# Altium integrated library Xilinx Automotive IQ.IntLib: 78 symbols (part 6 of 7)
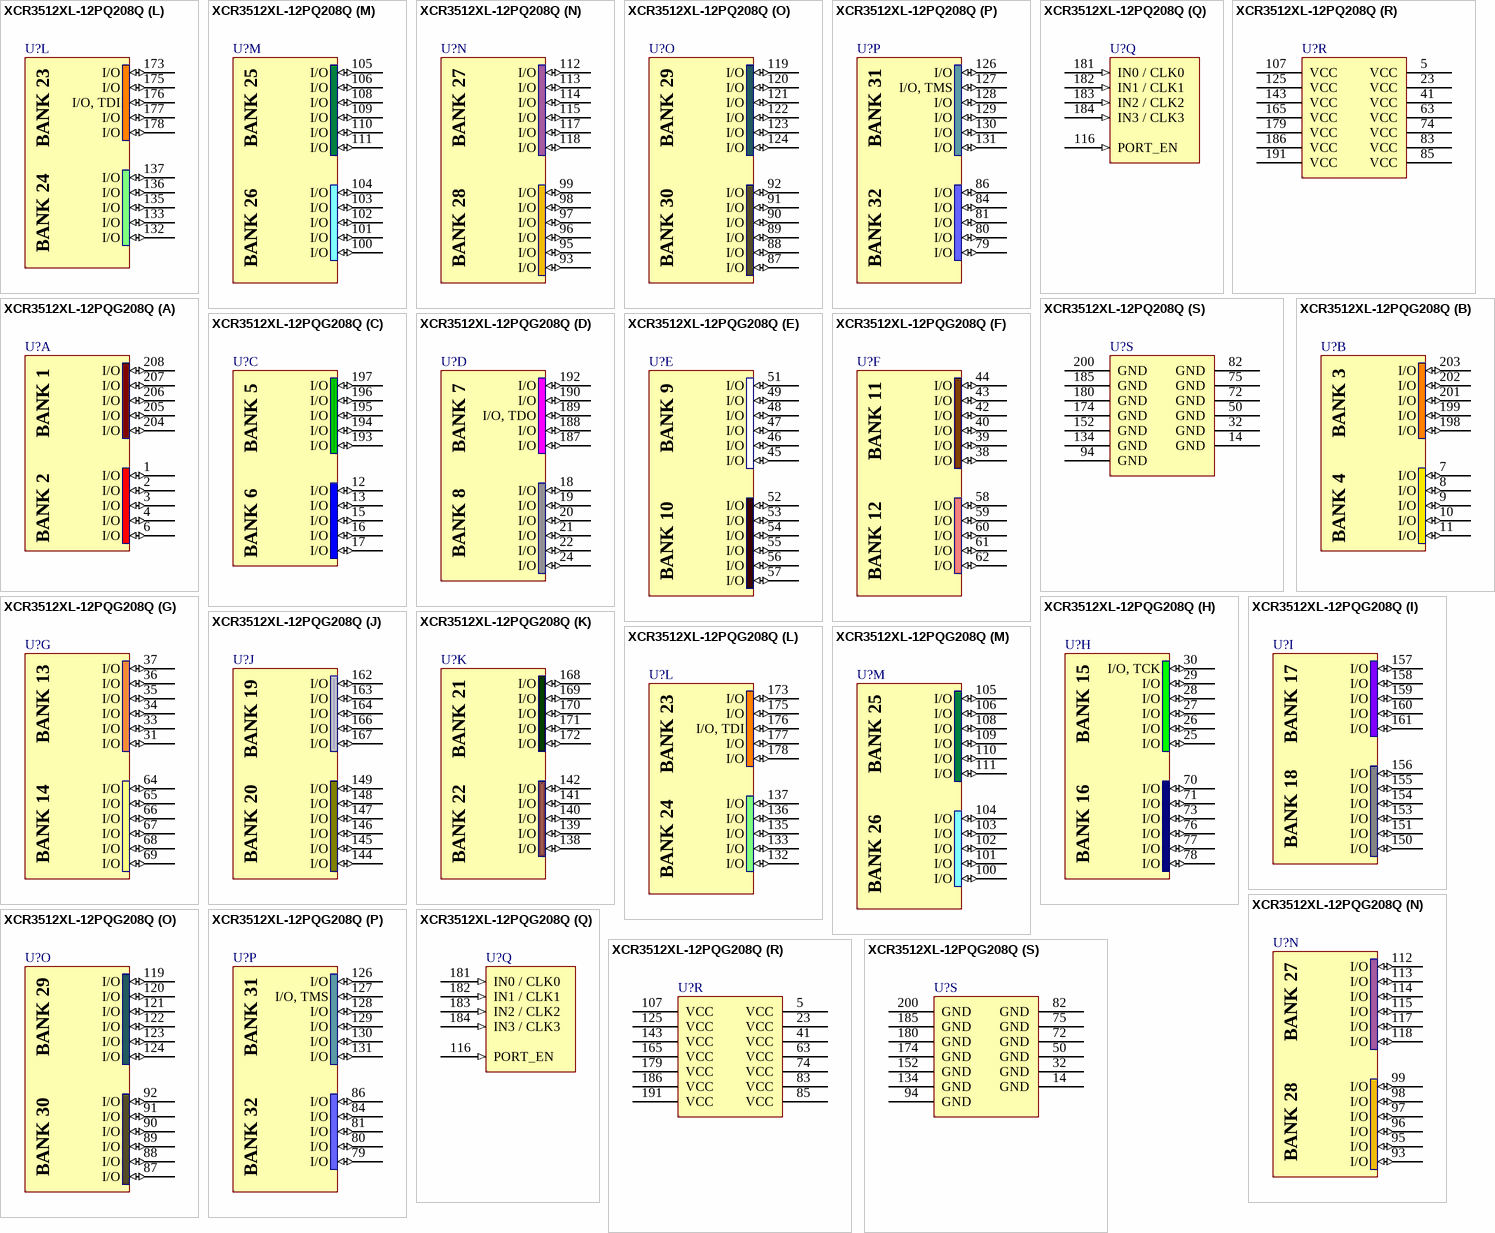
[diagram p42: symbols XCR3512XL-12PQ208Q to XCR3512XL-12PQG208Q]

## XCR3512XL-12PQG208Q
designator U?
Automotive IQ CoolRunner XPLA3 3.3V, 512 Macrocell CPLD, 180 User I/Os, 208-Pin PQFP, Q Grade, Pb-Free; DatasheetVersion: ver1.3, Oct-2004; PackageVersion: ver1.2, Jun-2004; PackageReference: PQG208; PackageDescription: 208-Pin Plastic Quad Flat Pack (PQG208) - Pb-Free; Code_JEDEC: MS-029-FA-1; ComponentLink1Description: Manufacturer URL; ComponentLink1URL: http://www.xilinx.com/; ComponentLink2Description: CoolRunner XPLA3 Automotive IQ Datasheet; ComponentLink2URL: http://www.xilinx.com/support/documentation/data_sheets/ds109-1.pdf; ComponentLink3Description: Pinout; ComponentLink3URL: http://www.xilinx.com/support/documentation/data_sheets/ds081.pdf; ComponentLink4Description: PQG208 Package Drawing; ComponentLink4URL: http://www.xilinx.com/support/documentation/package_specs/pq208.pdf; ComponentLink5Description: Automotive IQ Documents; ComponentLink5URL: http://www.xilinx.com/support/documentation/automotive_iq_devices.htm
footprint PQG208_N (Shrink QFP, 208-Leads, Body 28x28mm, Pitch 0.5mm, IPC Medium Density)
footprint PQG208_L (Shrink QFP, 208-Leads, Body 28x28mm, Pitch 0.5mm, IPC High Density)
footprint PQG208_M (Shrink QFP, 208-Leads, Body 28x28mm, Pitch 0.5mm, IPC Low Density)
part A pins: 1 I/O (io), 2 I/O (io), 3 I/O (io), 4 I/O (io), 6 I/O (io), 204 I/O (io), 205 I/O (io), 206 I/O (io), 207 I/O (io), 208 I/O (io)
part B pins: 7 I/O (io), 8 I/O (io), 9 I/O (io), 10 I/O (io), 11 I/O (io), 198 I/O (io), 199 I/O (io), 201 I/O (io), 202 I/O (io), 203 I/O (io)
part C pins: 12 I/O (io), 13 I/O (io), 15 I/O (io), 16 I/O (io), 17 I/O (io), 193 I/O (io), 194 I/O (io), 195 I/O (io), 196 I/O (io), 197 I/O (io)
part D pins: 18 I/O (io), 19 I/O (io), 20 I/O (io), 21 I/O (io), 22 I/O (io), 24 I/O (io), 187 I/O (io), 188 I/O (io), 189 I/O, TDO (io), 190 I/O (io), 192 I/O (io)
part E pins: 45 I/O (io), 46 I/O (io), 47 I/O (io), 48 I/O (io), 49 I/O (io), 51 I/O (io), 52 I/O (io), 53 I/O (io), 54 I/O (io), 55 I/O (io), 56 I/O (io), 57 I/O (io)
part F pins: 38 I/O (io), 39 I/O (io), 40 I/O (io), 42 I/O (io), 43 I/O (io), 44 I/O (io), 58 I/O (io), 59 I/O (io), 60 I/O (io), 61 I/O (io), 62 I/O (io)
part G pins: 31 I/O (io), 33 I/O (io), 34 I/O (io), 35 I/O (io), 36 I/O (io), 37 I/O (io), 64 I/O (io), 65 I/O (io), 66 I/O (io), 67 I/O (io), 68 I/O (io), 69 I/O (io)
part H pins: 25 I/O (io), 26 I/O (io), 27 I/O (io), 28 I/O (io), 29 I/O (io), 30 I/O, TCK (io), 70 I/O (io), 71 I/O (io), 73 I/O (io), 76 I/O (io), 77 I/O (io), 78 I/O (io)
part I pins: 150 I/O (io), 151 I/O (io), 153 I/O (io), 154 I/O (io), 155 I/O (io), 156 I/O (io), 157 I/O (io), 158 I/O (io), 159 I/O (io), 160 I/O (io), 161 I/O (io)
part J pins: 144 I/O (io), 145 I/O (io), 146 I/O (io), 147 I/O (io), 148 I/O (io), 149 I/O (io), 162 I/O (io), 163 I/O (io), 164 I/O (io), 166 I/O (io), 167 I/O (io)
part K pins: 138 I/O (io), 139 I/O (io), 140 I/O (io), 141 I/O (io), 142 I/O (io), 168 I/O (io), 169 I/O (io), 170 I/O (io), 171 I/O (io), 172 I/O (io)
part L pins: 132 I/O (io), 133 I/O (io), 135 I/O (io), 136 I/O (io), 137 I/O (io), 173 I/O (io), 175 I/O (io), 176 I/O, TDI (io), 177 I/O (io), 178 I/O (io)
part M pins: 100 I/O (io), 101 I/O (io), 102 I/O (io), 103 I/O (io), 104 I/O (io), 105 I/O (io), 106 I/O (io), 108 I/O (io), 109 I/O (io), 110 I/O (io), 111 I/O (io)
part N pins: 93 I/O (io), 95 I/O (io), 96 I/O (io), 97 I/O (io), 98 I/O (io), 99 I/O (io), 112 I/O (io), 113 I/O (io), 114 I/O (io), 115 I/O (io), 117 I/O (io), 118 I/O (io)
part O pins: 87 I/O (io), 88 I/O (io), 89 I/O (io), 90 I/O (io), 91 I/O (io), 92 I/O (io), 119 I/O (io), 120 I/O (io), 121 I/O (io), 122 I/O (io), 123 I/O (io), 124 I/O (io)
part P pins: 79 I/O (io), 80 I/O (io), 81 I/O (io), 84 I/O (io), 86 I/O (io), 126 I/O (io), 127 I/O, TMS (io), 128 I/O (io), 129 I/O (io), 130 I/O (io), 131 I/O (io)
part Q pins: 116 PORT_EN (in), 181 IN0 / CLK0 (in), 182 IN1 / CLK1 (in), 183 IN2 / CLK2 (in), 184 IN3 / CLK3 (in)
part R pins: 5 VCC (power), 23 VCC (power), 41 VCC (power), 63 VCC (power), 74 VCC (power), 83 VCC (power), 85 VCC (power), 107 VCC (power), 125 VCC (power), 143 VCC (power), 165 VCC (power), 179 VCC (power), 186 VCC (power), 191 VCC (power)
part S pins: 14 GND (power), 32 GND (power), 50 GND (power), 72 GND (power), 75 GND (power), 82 GND (power), 94 GND (power), 134 GND (power), 152 GND (power), 174 GND (power), 180 GND (power), 185 GND (power), 200 GND (power)
part A text: BANK 1; BANK 2
part B text: BANK 3; BANK 4
part C text: BANK 5; BANK 6
part D text: BANK 7; BANK 8
part E text: BANK 9; BANK 10
part F text: BANK 11; BANK 12
part G text: BANK 13; BANK 14
part H text: BANK 15; BANK 16
part I text: BANK 17; BANK 18
part J text: BANK 19; BANK 20
part K text: BANK 21; BANK 22
part L text: BANK 23; BANK 24
part M text: BANK 25; BANK 26
part N text: BANK 27; BANK 28
part O text: BANK 29; BANK 30
part P text: BANK 31; BANK 32

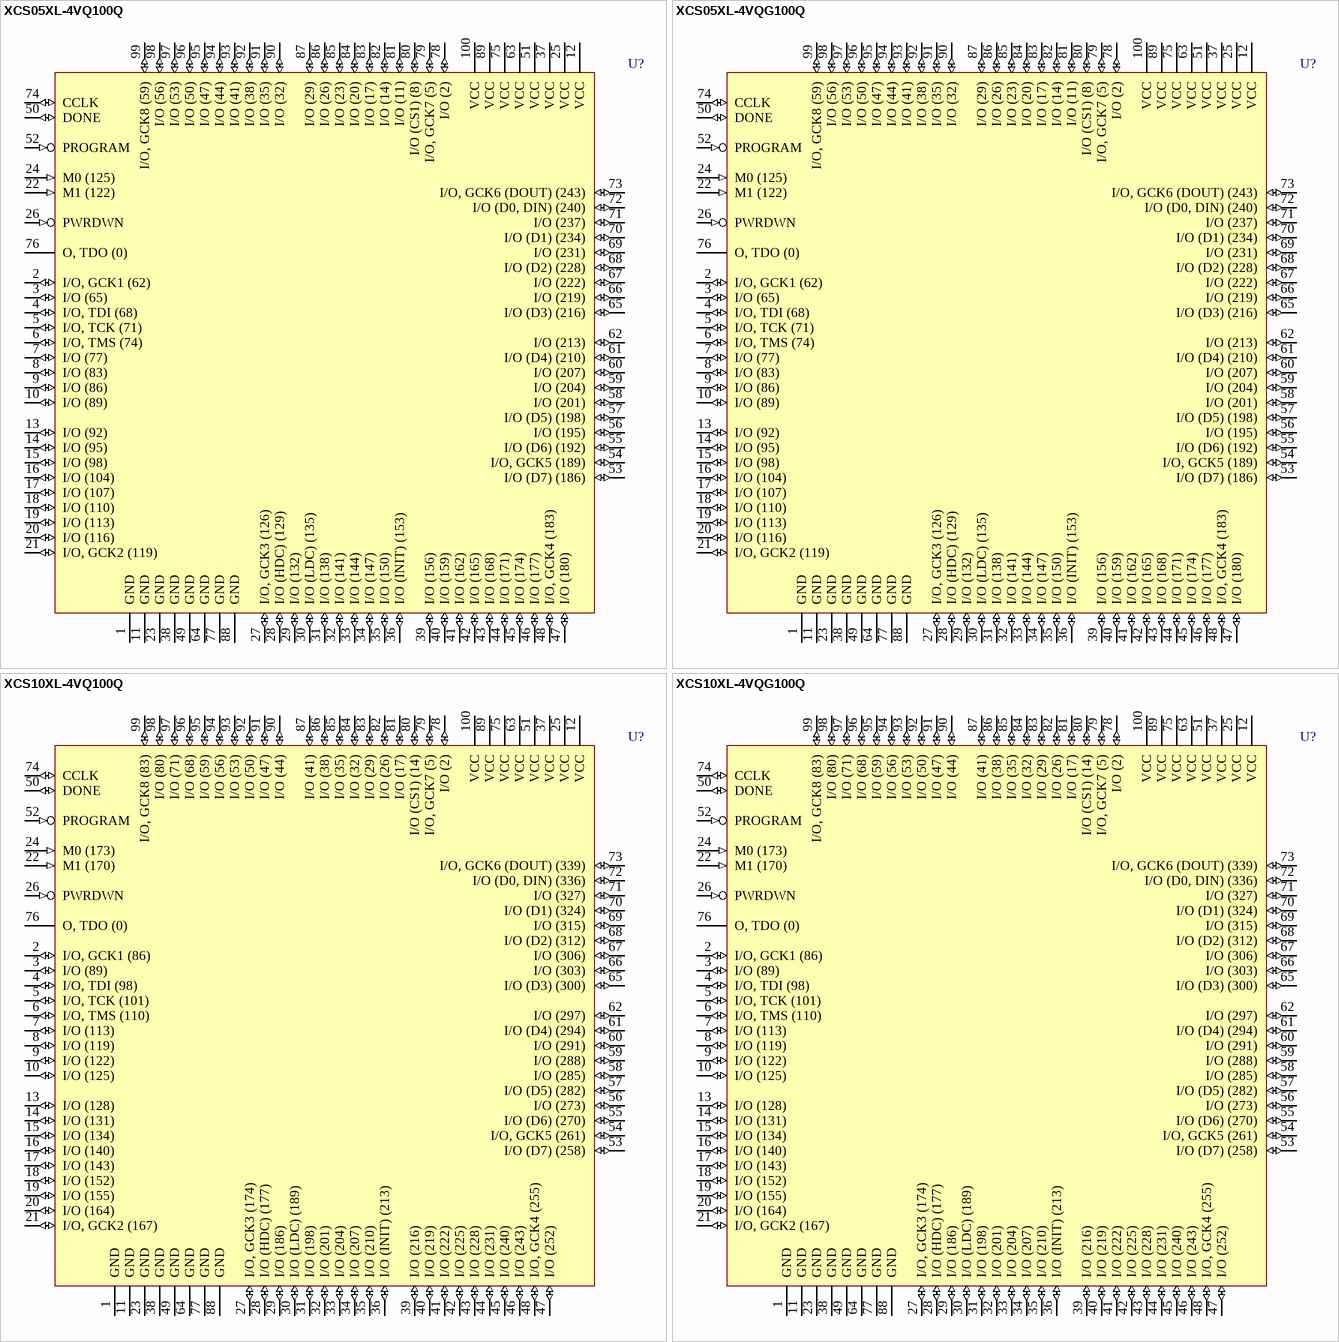
[diagram p26: symbols XCS05XL-4VQ100Q to XCS10XL-4VQG100Q]

## XCS05XL-4VQ100Q
designator U?
Automotive IQ Spartan XL FPGA, 77 User I/Os, 100-Pin VQFP, Speed Grade 4, Q Grade; DatasheetVersion: ver1.4, Oct-2004; PackageVersion: ver1.2.1, Feb-2007; PackageReference: VQ100; PackageDescription: 100-Pin Very Thin Quad Flat Pack (VQ100); Code_JEDEC: MS-026-AED; ComponentLink1Description: Manufacturer URL; ComponentLink1URL: http://www.xilinx.com/; ComponentLink2Description: Spartan-XL Automotive IQ Datasheet; ComponentLink2URL: http://www.xilinx.com/support/documentation/data_sheets/ds107-1.pdf; ComponentLink3Description: Pinout; ComponentLink3URL: http://www.xilinx.com/support/documentation/data_sheets/ds060.pdf; ComponentLink4Description: VQ100 Package Drawing; ComponentLink4URL: http://www.xilinx.com/support/documentation/package_specs/vq100.pdf; ComponentLink5Description: Automotive IQ Documents; ComponentLink5URL: http://www.xilinx.com/support/documentation/automotive_iq_devices.htm
footprint VQ100_N (Thin QFP, 100-Leads, Body 14x14mm, Pitch 0.5mm, IPC Medium Density)
footprint VQ100_L (Thin QFP, 100-Leads, Body 14x14mm, Pitch 0.5mm, IPC High Density)
footprint VQ100_M (Thin QFP, 100-Leads, Body 14x14mm, Pitch 0.5mm, IPC Low Density)
pins: 1 GND (power), 2 I/O, GCK1 (62) (io), 3 I/O (65) (io), 4 I/O, TDI (68) (io), 5 I/O, TCK (71) (io), 6 I/O, TMS (74) (io), 7 I/O (77) (io), 8 I/O (83) (io), 9 I/O (86) (io), 10 I/O (89) (io), 11 GND (power), 12 VCC (power), 13 I/O (92) (io), 14 I/O (95) (io), 15 I/O (98) (io), 16 I/O (104) (io), 17 I/O (107) (io), 18 I/O (110) (io), 19 I/O (113) (io), 20 I/O (116) (io), 21 I/O, GCK2 (119) (io), 22 M1 (122) (in), 23 GND (power), 24 M0 (125) (in), 25 VCC (power), 26 PWRDWN (in), 27 I/O, GCK3 (126) (io), 28 I/O (HDC) (129) (io), 29 I/O (132) (io), 30 I/O (LDC) (135) (io), 31 I/O (138) (io), 32 I/O (141) (io), 33 I/O (144) (io), 34 I/O (147) (io), 35 I/O (150) (io), 36 I/O (INIT) (153) (io), 37 VCC (power), 38 GND (power), 39 I/O (156) (io), 40 I/O (159) (io), 41 I/O (162) (io), 42 I/O (165) (io), 43 I/O (168) (io), 44 I/O (171) (io), 45 I/O (174) (io), 46 I/O (177) (io), 47 I/O (180) (io), 48 I/O, GCK4 (183) (io), 49 GND (power), 50 DONE (io), 51 VCC (power), 52 PROGRAM (in), 53 I/O (D7) (186) (io), 54 I/O, GCK5 (189) (io), 55 I/O (D6) (192) (io), 56 I/O (195) (io), 57 I/O (D5) (198) (io), 58 I/O (201) (io), 59 I/O (204) (io), 60 I/O (207) (io), 61 I/O (D4) (210) (io), 62 I/O (213) (io), 63 VCC (power), 64 GND (power), 65 I/O (D3) (216) (io), 66 I/O (219) (io), 67 I/O (222) (io), 68 I/O (D2) (228) (io), 69 I/O (231) (io), 70 I/O (D1) (234) (io), 71 I/O (237) (io), 72 I/O (D0, DIN) (240) (io), 73 I/O, GCK6 (DOUT) (243) (io), 74 CCLK (io), 75 VCC (power), 76 O, TDO (0) (hiz), 77 GND (power), 78 I/O (2) (io), 79 I/O, GCK7 (5) (io), 80 I/O (CS1) (8) (io), 81 I/O (11) (io), 82 I/O (14) (io), 83 I/O (17) (io), 84 I/O (20) (io), 85 I/O (23) (io), 86 I/O (26) (io), 87 I/O (29) (io), 88 GND (power), 89 VCC (power), 90 I/O (32) (io), 91 I/O (35) (io), 92 I/O (38) (io), 93 I/O (41) (io), 94 I/O (44) (io), 95 I/O (47) (io), 96 I/O (50) (io), 97 I/O (53) (io), 98 I/O (56) (io), 99 I/O, GCK8 (59) (io), 100 VCC (power)

## XCS05XL-4VQG100Q
designator U?
Automotive IQ Spartan XL FPGA, 77 User I/Os, 100-Pin VQFP, Speed Grade 4, Q Grade, Pb-Free; DatasheetVersion: ver1.4, Oct-2004; PackageVersion: ver1.2.1, Feb-2007; PackageReference: VQG100; PackageDescription: 100-Pin Very Thin Quad Flat Pack (VQG100) - Pb-Free; Code_JEDEC: MS-026-AED; ComponentLink1Description: Manufacturer URL; ComponentLink1URL: http://www.xilinx.com/; ComponentLink2Description: Spartan-XL Automotive IQ Datasheet; ComponentLink2URL: http://www.xilinx.com/support/documentation/data_sheets/ds107-1.pdf; ComponentLink3Description: Pinout; ComponentLink3URL: http://www.xilinx.com/support/documentation/data_sheets/ds060.pdf; ComponentLink4Description: VQG100 Package Drawing; ComponentLink4URL: http://www.xilinx.com/support/documentation/package_specs/vq100.pdf; ComponentLink5Description: Automotive IQ Documents; ComponentLink5URL: http://www.xilinx.com/support/documentation/automotive_iq_devices.htm
footprint VQG100_N (Thin QFP, 100-Leads, Body 14x14mm, Pitch 0.5mm, IPC Medium Density)
footprint VQG100_L (Thin QFP, 100-Leads, Body 14x14mm, Pitch 0.5mm, IPC High Density)
footprint VQG100_M (Thin QFP, 100-Leads, Body 14x14mm, Pitch 0.5mm, IPC Low Density)
pins: 1 GND (power), 2 I/O, GCK1 (62) (io), 3 I/O (65) (io), 4 I/O, TDI (68) (io), 5 I/O, TCK (71) (io), 6 I/O, TMS (74) (io), 7 I/O (77) (io), 8 I/O (83) (io), 9 I/O (86) (io), 10 I/O (89) (io), 11 GND (power), 12 VCC (power), 13 I/O (92) (io), 14 I/O (95) (io), 15 I/O (98) (io), 16 I/O (104) (io), 17 I/O (107) (io), 18 I/O (110) (io), 19 I/O (113) (io), 20 I/O (116) (io), 21 I/O, GCK2 (119) (io), 22 M1 (122) (in), 23 GND (power), 24 M0 (125) (in), 25 VCC (power), 26 PWRDWN (in), 27 I/O, GCK3 (126) (io), 28 I/O (HDC) (129) (io), 29 I/O (132) (io), 30 I/O (LDC) (135) (io), 31 I/O (138) (io), 32 I/O (141) (io), 33 I/O (144) (io), 34 I/O (147) (io), 35 I/O (150) (io), 36 I/O (INIT) (153) (io), 37 VCC (power), 38 GND (power), 39 I/O (156) (io), 40 I/O (159) (io), 41 I/O (162) (io), 42 I/O (165) (io), 43 I/O (168) (io), 44 I/O (171) (io), 45 I/O (174) (io), 46 I/O (177) (io), 47 I/O (180) (io), 48 I/O, GCK4 (183) (io), 49 GND (power), 50 DONE (io), 51 VCC (power), 52 PROGRAM (in), 53 I/O (D7) (186) (io), 54 I/O, GCK5 (189) (io), 55 I/O (D6) (192) (io), 56 I/O (195) (io), 57 I/O (D5) (198) (io), 58 I/O (201) (io), 59 I/O (204) (io), 60 I/O (207) (io), 61 I/O (D4) (210) (io), 62 I/O (213) (io), 63 VCC (power), 64 GND (power), 65 I/O (D3) (216) (io), 66 I/O (219) (io), 67 I/O (222) (io), 68 I/O (D2) (228) (io), 69 I/O (231) (io), 70 I/O (D1) (234) (io), 71 I/O (237) (io), 72 I/O (D0, DIN) (240) (io), 73 I/O, GCK6 (DOUT) (243) (io), 74 CCLK (io), 75 VCC (power), 76 O, TDO (0) (hiz), 77 GND (power), 78 I/O (2) (io), 79 I/O, GCK7 (5) (io), 80 I/O (CS1) (8) (io), 81 I/O (11) (io), 82 I/O (14) (io), 83 I/O (17) (io), 84 I/O (20) (io), 85 I/O (23) (io), 86 I/O (26) (io), 87 I/O (29) (io), 88 GND (power), 89 VCC (power), 90 I/O (32) (io), 91 I/O (35) (io), 92 I/O (38) (io), 93 I/O (41) (io), 94 I/O (44) (io), 95 I/O (47) (io), 96 I/O (50) (io), 97 I/O (53) (io), 98 I/O (56) (io), 99 I/O, GCK8 (59) (io), 100 VCC (power)

## XCS10XL-4VQ100Q
designator U?
Automotive IQ Spartan XL FPGA, 77 User I/Os, 100-Pin VQFP, Speed Grade 4, Q Grade; DatasheetVersion: ver1.4, Oct-2004; PackageVersion: ver1.2.1, Feb-2007; PackageReference: VQ100; PackageDescription: 100-Pin Very Thin Quad Flat Pack (VQ100); Code_JEDEC: MS-026-AED; ComponentLink1Description: Manufacturer URL; ComponentLink1URL: http://www.xilinx.com/; ComponentLink2Description: Spartan-XL Automotive IQ Datasheet; ComponentLink2URL: http://www.xilinx.com/support/documentation/data_sheets/ds107-1.pdf; ComponentLink3Description: Pinout; ComponentLink3URL: http://www.xilinx.com/support/documentation/data_sheets/ds060.pdf; ComponentLink4Description: VQ100 Package Drawing; ComponentLink4URL: http://www.xilinx.com/support/documentation/package_specs/vq100.pdf; ComponentLink5Description: Automotive IQ Documents; ComponentLink5URL: http://www.xilinx.com/support/documentation/automotive_iq_devices.htm
footprint VQ100_N (Thin QFP, 100-Leads, Body 14x14mm, Pitch 0.5mm, IPC Medium Density)
footprint VQ100_L (Thin QFP, 100-Leads, Body 14x14mm, Pitch 0.5mm, IPC High Density)
footprint VQ100_M (Thin QFP, 100-Leads, Body 14x14mm, Pitch 0.5mm, IPC Low Density)
pins: 1 GND (power), 2 I/O, GCK1 (86) (io), 3 I/O (89) (io), 4 I/O, TDI (98) (io), 5 I/O, TCK (101) (io), 6 I/O, TMS (110) (io), 7 I/O (113) (io), 8 I/O (119) (io), 9 I/O (122) (io), 10 I/O (125) (io), 11 GND (power), 12 VCC (power), 13 I/O (128) (io), 14 I/O (131) (io), 15 I/O (134) (io), 16 I/O (140) (io), 17 I/O (143) (io), 18 I/O (152) (io), 19 I/O (155) (io), 20 I/O (164) (io), 21 I/O, GCK2 (167) (io), 22 M1 (170) (in), 23 GND (power), 24 M0 (173) (in), 25 VCC (power), 26 PWRDWN (in), 27 I/O, GCK3 (174) (io), 28 I/O (HDC) (177) (io), 29 I/O (186) (io), 30 I/O (LDC) (189) (io), 31 I/O (198) (io), 32 I/O (201) (io), 33 I/O (204) (io), 34 I/O (207) (io), 35 I/O (210) (io), 36 I/O (INIT) (213) (io), 37 VCC (power), 38 GND (power), 39 I/O (216) (io), 40 I/O (219) (io), 41 I/O (222) (io), 42 I/O (225) (io), 43 I/O (228) (io), 44 I/O (231) (io), 45 I/O (240) (io), 46 I/O (243) (io), 47 I/O (252) (io), 48 I/O, GCK4 (255) (io), 49 GND (power), 50 DONE (io), 51 VCC (power), 52 PROGRAM (in), 53 I/O (D7) (258) (io), 54 I/O, GCK5 (261) (io), 55 I/O (D6) (270) (io), 56 I/O (273) (io), 57 I/O (D5) (282) (io), 58 I/O (285) (io), 59 I/O (288) (io), 60 I/O (291) (io), 61 I/O (D4) (294) (io), 62 I/O (297) (io), 63 VCC (power), 64 GND (power), 65 I/O (D3) (300) (io), 66 I/O (303) (io), 67 I/O (306) (io), 68 I/O (D2) (312) (io), 69 I/O (315) (io), 70 I/O (D1) (324) (io), 71 I/O (327) (io), 72 I/O (D0, DIN) (336) (io), 73 I/O, GCK6 (DOUT) (339) (io), 74 CCLK (io), 75 VCC (power), 76 O, TDO (0) (hiz), 77 GND (power), 78 I/O (2) (io), 79 I/O, GCK7 (5) (io), 80 I/O (CS1) (14) (io), 81 I/O (17) (io), 82 I/O (26) (io), 83 I/O (29) (io), 84 I/O (32) (io), 85 I/O (35) (io), 86 I/O (38) (io), 87 I/O (41) (io), 88 GND (power), 89 VCC (power), 90 I/O (44) (io), 91 I/O (47) (io), 92 I/O (50) (io), 93 I/O (53) (io), 94 I/O (56) (io), 95 I/O (59) (io), 96 I/O (68) (io), 97 I/O (71) (io), 98 I/O (80) (io), 99 I/O, GCK8 (83) (io), 100 VCC (power)

## XCS10XL-4VQG100Q
designator U?
Automotive IQ Spartan XL FPGA, 77 User I/Os, 100-Pin VQFP, Speed Grade 4, Q Grade, Pb-Free; DatasheetVersion: ver1.4, Oct-2004; PackageVersion: ver1.2.1, Feb-2007; PackageReference: VQG100; PackageDescription: 100-Pin Very Thin Quad Flat Pack (VQG100) - Pb-Free; Code_JEDEC: MS-026-AED; ComponentLink1Description: Manufacturer URL; ComponentLink1URL: http://www.xilinx.com/; ComponentLink2Description: Spartan-XL Automotive IQ Datasheet; ComponentLink2URL: http://www.xilinx.com/support/documentation/data_sheets/ds107-1.pdf; ComponentLink3Description: Pinout; ComponentLink3URL: http://www.xilinx.com/support/documentation/data_sheets/ds060.pdf; ComponentLink4Description: VQG100 Package Drawing; ComponentLink4URL: http://www.xilinx.com/support/documentation/package_specs/vq100.pdf; ComponentLink5Description: Automotive IQ Documents; ComponentLink5URL: http://www.xilinx.com/support/documentation/automotive_iq_devices.htm
footprint VQG100_N (Thin QFP, 100-Leads, Body 14x14mm, Pitch 0.5mm, IPC Medium Density)
footprint VQG100_L (Thin QFP, 100-Leads, Body 14x14mm, Pitch 0.5mm, IPC High Density)
footprint VQG100_M (Thin QFP, 100-Leads, Body 14x14mm, Pitch 0.5mm, IPC Low Density)
pins: 1 GND (power), 2 I/O, GCK1 (86) (io), 3 I/O (89) (io), 4 I/O, TDI (98) (io), 5 I/O, TCK (101) (io), 6 I/O, TMS (110) (io), 7 I/O (113) (io), 8 I/O (119) (io), 9 I/O (122) (io), 10 I/O (125) (io), 11 GND (power), 12 VCC (power), 13 I/O (128) (io), 14 I/O (131) (io), 15 I/O (134) (io), 16 I/O (140) (io), 17 I/O (143) (io), 18 I/O (152) (io), 19 I/O (155) (io), 20 I/O (164) (io), 21 I/O, GCK2 (167) (io), 22 M1 (170) (in), 23 GND (power), 24 M0 (173) (in), 25 VCC (power), 26 PWRDWN (in), 27 I/O, GCK3 (174) (io), 28 I/O (HDC) (177) (io), 29 I/O (186) (io), 30 I/O (LDC) (189) (io), 31 I/O (198) (io), 32 I/O (201) (io), 33 I/O (204) (io), 34 I/O (207) (io), 35 I/O (210) (io), 36 I/O (INIT) (213) (io), 37 VCC (power), 38 GND (power), 39 I/O (216) (io), 40 I/O (219) (io), 41 I/O (222) (io), 42 I/O (225) (io), 43 I/O (228) (io), 44 I/O (231) (io), 45 I/O (240) (io), 46 I/O (243) (io), 47 I/O (252) (io), 48 I/O, GCK4 (255) (io), 49 GND (power), 50 DONE (io), 51 VCC (power), 52 PROGRAM (in), 53 I/O (D7) (258) (io), 54 I/O, GCK5 (261) (io), 55 I/O (D6) (270) (io), 56 I/O (273) (io), 57 I/O (D5) (282) (io), 58 I/O (285) (io), 59 I/O (288) (io), 60 I/O (291) (io), 61 I/O (D4) (294) (io), 62 I/O (297) (io), 63 VCC (power), 64 GND (power), 65 I/O (D3) (300) (io), 66 I/O (303) (io), 67 I/O (306) (io), 68 I/O (D2) (312) (io), 69 I/O (315) (io), 70 I/O (D1) (324) (io), 71 I/O (327) (io), 72 I/O (D0, DIN) (336) (io), 73 I/O, GCK6 (DOUT) (339) (io), 74 CCLK (io), 75 VCC (power), 76 O, TDO (0) (hiz), 77 GND (power), 78 I/O (2) (io), 79 I/O, GCK7 (5) (io), 80 I/O (CS1) (14) (io), 81 I/O (17) (io), 82 I/O (26) (io), 83 I/O (29) (io), 84 I/O (32) (io), 85 I/O (35) (io), 86 I/O (38) (io), 87 I/O (41) (io), 88 GND (power), 89 VCC (power), 90 I/O (44) (io), 91 I/O (47) (io), 92 I/O (50) (io), 93 I/O (53) (io), 94 I/O (56) (io), 95 I/O (59) (io), 96 I/O (68) (io), 97 I/O (71) (io), 98 I/O (80) (io), 99 I/O, GCK8 (83) (io), 100 VCC (power)

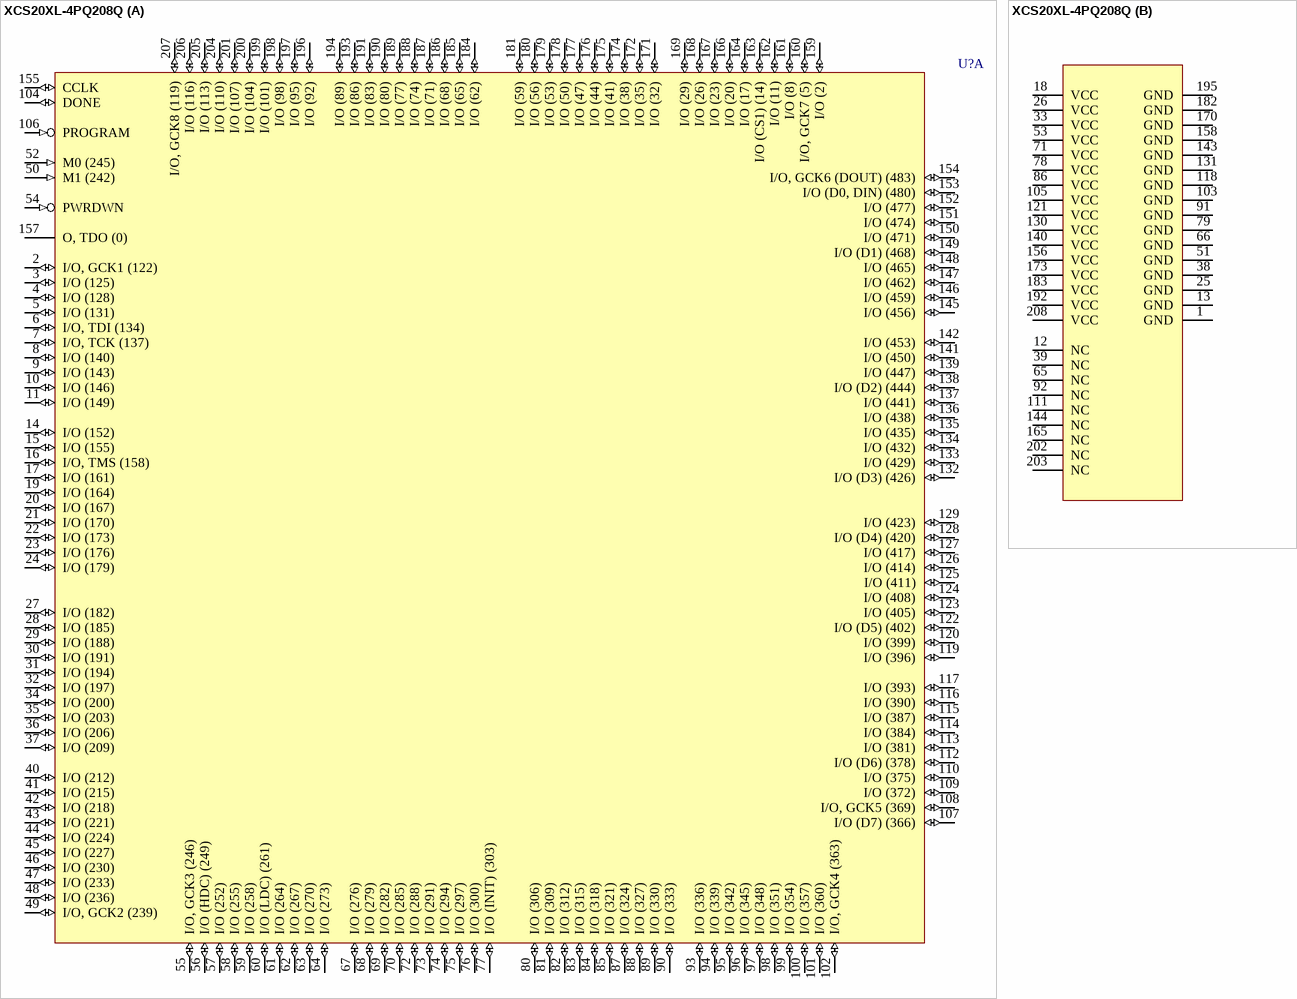
[diagram p27: symbol XCS20XL-4PQ208Q]

## XCS20XL-4PQ208Q
designator U?
Automotive IQ Spartan XL FPGA, 160 User I/Os, 208-Pin PQFP, Speed Grade 4, Q Grade; DatasheetVersion: ver1.4, Oct-2004; PackageVersion: ver1.2, Jun-2004; PackageReference: PQ208; PackageDescription: 208-Pin Plastic Quad Flat Pack (PQ208); Code_JEDEC: MS-029-FA-1; ComponentLink1Description: Manufacturer URL; ComponentLink1URL: http://www.xilinx.com/; ComponentLink2Description: Spartan-XL Automotive IQ Datasheet; ComponentLink2URL: http://www.xilinx.com/support/documentation/data_sheets/ds107-1.pdf; ComponentLink3Description: Pinout; ComponentLink3URL: http://www.xilinx.com/support/documentation/data_sheets/ds060.pdf; ComponentLink4Description: PQ208 Package Drawing; ComponentLink4URL: http://www.xilinx.com/support/documentation/package_specs/pq208.pdf; ComponentLink5Description: Automotive IQ Documents; ComponentLink5URL: http://www.xilinx.com/support/documentation/automotive_iq_devices.htm
footprint PQ208_N (Shrink QFP, 208-Leads, Body 28x28mm, Pitch 0.5mm, IPC Medium Density)
footprint PQ208_L (Shrink QFP, 208-Leads, Body 28x28mm, Pitch 0.5mm, IPC High Density)
footprint PQ208_M (Shrink QFP, 208-Leads, Body 28x28mm, Pitch 0.5mm, IPC Low Density)
part A pins: 2 I/O, GCK1 (122) (io), 3 I/O (125) (io), 4 I/O (128) (io), 5 I/O (131) (io), 6 I/O, TDI (134) (io), 7 I/O, TCK (137) (io), 8 I/O (140) (io), 9 I/O (143) (io), 10 I/O (146) (io), 11 I/O (149) (io), 14 I/O (152) (io), 15 I/O (155) (io), 16 I/O, TMS (158) (io), 17 I/O (161) (io), 19 I/O (164) (io), 20 I/O (167) (io), 21 I/O (170) (io), 22 I/O (173) (io), 23 I/O (176) (io), 24 I/O (179) (io), 27 I/O (182) (io), 28 I/O (185) (io), 29 I/O (188) (io), 30 I/O (191) (io), 31 I/O (194) (io), 32 I/O (197) (io), 34 I/O (200) (io), 35 I/O (203) (io), 36 I/O (206) (io), 37 I/O (209) (io), 40 I/O (212) (io), 41 I/O (215) (io), 42 I/O (218) (io), 43 I/O (221) (io), 44 I/O (224) (io), 45 I/O (227) (io), 46 I/O (230) (io), 47 I/O (233) (io), 48 I/O (236) (io), 49 I/O, GCK2 (239) (io), 50 M1 (242) (in), 52 M0 (245) (in), 54 PWRDWN (in), 55 I/O, GCK3 (246) (io), 56 I/O (HDC) (249) (io), 57 I/O (252) (io), 58 I/O (255) (io), 59 I/O (258) (io), 60 I/O (LDC) (261) (io), 61 I/O (264) (io), 62 I/O (267) (io), 63 I/O (270) (io), 64 I/O (273) (io), 67 I/O (276) (io), 68 I/O (279) (io), 69 I/O (282) (io), 70 I/O (285) (io), 72 I/O (288) (io), 73 I/O (291) (io), 74 I/O (294) (io), 75 I/O (297) (io), 76 I/O (300) (io), 77 I/O (INIT) (303) (io), 80 I/O (306) (io), 81 I/O (309) (io), 82 I/O (312) (io), 83 I/O (315) (io), 84 I/O (318) (io), 85 I/O (321) (io), 87 I/O (324) (io), 88 I/O (327) (io), 89 I/O (330) (io), 90 I/O (333) (io), 93 I/O (336) (io), 94 I/O (339) (io), 95 I/O (342) (io), 96 I/O (345) (io), 97 I/O (348) (io), 98 I/O (351) (io), 99 I/O (354) (io), 100 I/O (357) (io), 101 I/O (360) (io), 102 I/O, GCK4 (363) (io), 104 DONE (io), 106 PROGRAM (in), 107 I/O (D7) (366) (io), 108 I/O, GCK5 (369) (io), 109 I/O (372) (io), 110 I/O (375) (io), 112 I/O (D6) (378) (io), 113 I/O (381) (io), 114 I/O (384) (io), 115 I/O (387) (io), 116 I/O (390) (io), 117 I/O (393) (io), 119 I/O (396) (io), 120 I/O (399) (io), 122 I/O (D5) (402) (io), 123 I/O (405) (io), 124 I/O (408) (io), 125 I/O (411) (io), 126 I/O (414) (io), 127 I/O (417) (io), 128 I/O (D4) (420) (io), 129 I/O (423) (io), 132 I/O (D3) (426) (io), 133 I/O (429) (io), 134 I/O (432) (io), 135 I/O (435) (io), 136 I/O (438) (io), 137 I/O (441) (io), 138 I/O (D2) (444) (io), 139 I/O (447) (io), 141 I/O (450) (io), 142 I/O (453) (io), 145 I/O (456) (io), 146 I/O (459) (io), 147 I/O (462) (io), 148 I/O (465) (io), 149 I/O (D1) (468) (io), 150 I/O (471) (io), 151 I/O (474) (io), 152 I/O (477) (io), 153 I/O (D0, DIN) (480) (io), 154 I/O, GCK6 (DOUT) (483) (io), 155 CCLK (io), 157 O, TDO (0) (hiz), 159 I/O (2) (io), 160 I/O, GCK7 (5) (io), 161 I/O (8) (io), 162 I/O (11) (io), 163 I/O (CS1) (14) (io), 164 I/O (17) (io), 166 I/O (20) (io), 167 I/O (23) (io), 168 I/O (26) (io), 169 I/O (29) (io), 171 I/O (32) (io), 172 I/O (35) (io), 174 I/O (38) (io), 175 I/O (41) (io), 176 I/O (44) (io), 177 I/O (47) (io), 178 I/O (50) (io), 179 I/O (53) (io), 180 I/O (56) (io), 181 I/O (59) (io), 184 I/O (62) (io), 185 I/O (65) (io), 186 I/O (68) (io), 187 I/O (71) (io), 188 I/O (74) (io), 189 I/O (77) (io), 190 I/O (80) (io), 191 I/O (83) (io), 193 I/O (86) (io), 194 I/O (89) (io), 196 I/O (92) (io), 197 I/O (95) (io), 198 I/O (98) (io), 199 I/O (101) (io), 200 I/O (104) (io), 201 I/O (107) (io), 204 I/O (110) (io), 205 I/O (113) (io), 206 I/O (116) (io), 207 I/O, GCK8 (119) (io)
part B pins: 1 GND (power), 12 NC, 13 GND (power), 18 VCC (power), 25 GND (power), 26 VCC (power), 33 VCC (power), 38 GND (power), 39 NC, 51 GND (power), 53 VCC (power), 65 NC, 66 GND (power), 71 VCC (power), 78 VCC (power), 79 GND (power), 86 VCC (power), 91 GND (power), 92 NC, 103 GND (power), 105 VCC (power), 111 NC, 118 GND (power), 121 VCC (power), 130 VCC (power), 131 GND (power), 140 VCC (power), 143 GND (power), 144 NC, 156 VCC (power), 158 GND (power), 165 NC, 170 GND (power), 173 VCC (power), 182 GND (power), 183 VCC (power), 192 VCC (power), 195 GND (power), 202 NC, 203 NC, 208 VCC (power)

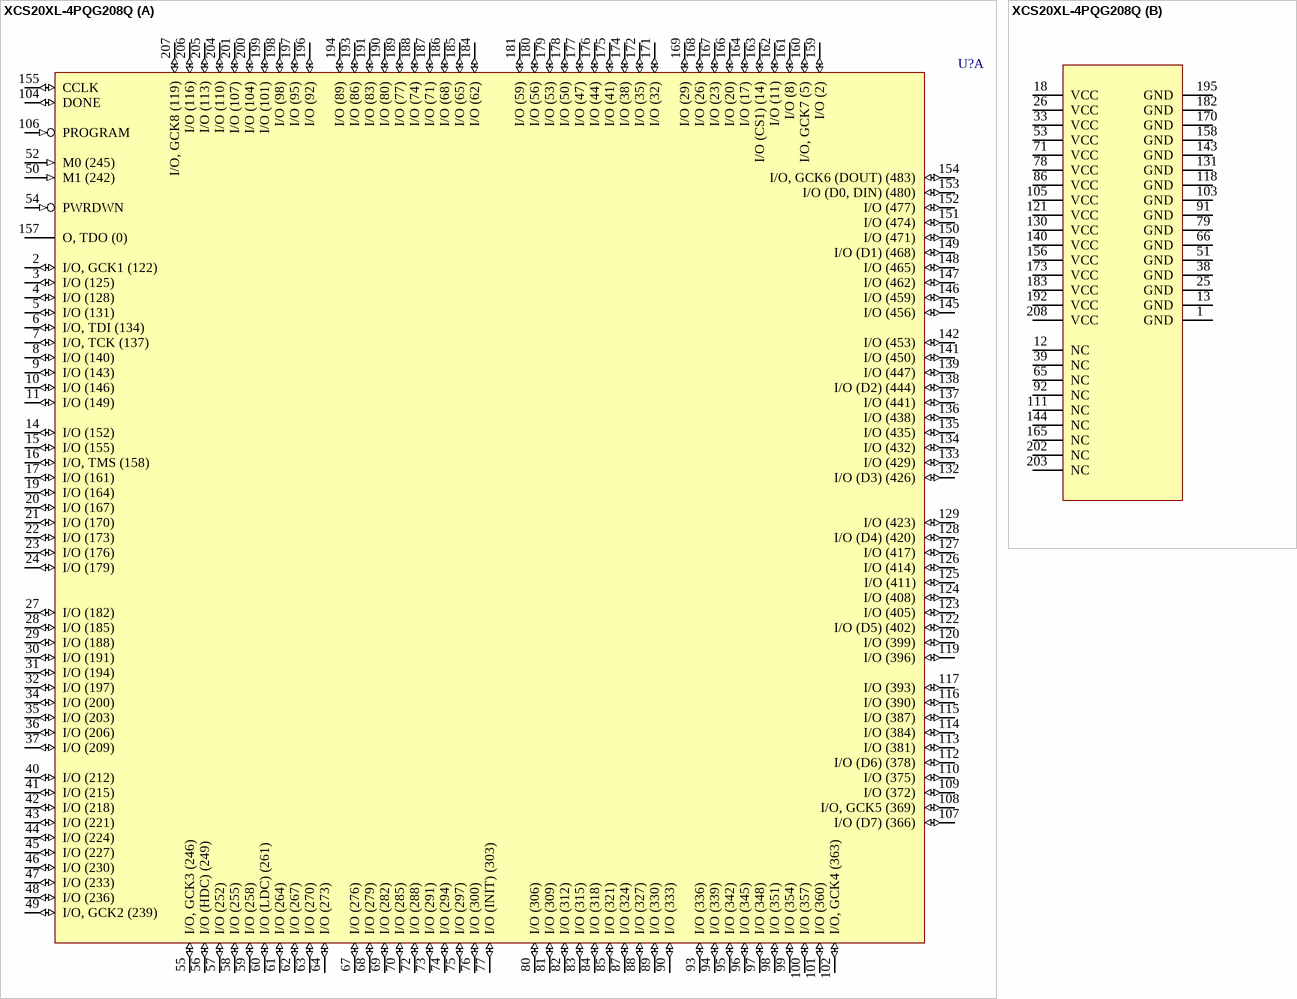
[diagram p28: symbol XCS20XL-4PQG208Q]

## XCS20XL-4PQG208Q
designator U?
Automotive IQ Spartan XL FPGA, 160 User I/Os, 208-Pin PQFP, Speed Grade 4, Q Grade, Pb-Free; DatasheetVersion: ver1.4, Oct-2004; PackageVersion: ver1.2, Jun-2004; PackageReference: PQG208; PackageDescription: 208-Pin Plastic Quad Flat Pack (PQG208) - Pb-Free; Code_JEDEC: MS-029-FA-1; ComponentLink1Description: Manufacturer URL; ComponentLink1URL: http://www.xilinx.com/; ComponentLink2Description: Spartan-XL Automotive IQ Datasheet; ComponentLink2URL: http://www.xilinx.com/support/documentation/data_sheets/ds107-1.pdf; ComponentLink3Description: Pinout; ComponentLink3URL: http://www.xilinx.com/support/documentation/data_sheets/ds060.pdf; ComponentLink4Description: PQG208 Package Drawing; ComponentLink4URL: http://www.xilinx.com/support/documentation/package_specs/pq208.pdf; ComponentLink5Description: Automotive IQ Documents; ComponentLink5URL: http://www.xilinx.com/support/documentation/automotive_iq_devices.htm
footprint PQG208_N (Shrink QFP, 208-Leads, Body 28x28mm, Pitch 0.5mm, IPC Medium Density)
footprint PQG208_L (Shrink QFP, 208-Leads, Body 28x28mm, Pitch 0.5mm, IPC High Density)
footprint PQG208_M (Shrink QFP, 208-Leads, Body 28x28mm, Pitch 0.5mm, IPC Low Density)
part A pins: 2 I/O, GCK1 (122) (io), 3 I/O (125) (io), 4 I/O (128) (io), 5 I/O (131) (io), 6 I/O, TDI (134) (io), 7 I/O, TCK (137) (io), 8 I/O (140) (io), 9 I/O (143) (io), 10 I/O (146) (io), 11 I/O (149) (io), 14 I/O (152) (io), 15 I/O (155) (io), 16 I/O, TMS (158) (io), 17 I/O (161) (io), 19 I/O (164) (io), 20 I/O (167) (io), 21 I/O (170) (io), 22 I/O (173) (io), 23 I/O (176) (io), 24 I/O (179) (io), 27 I/O (182) (io), 28 I/O (185) (io), 29 I/O (188) (io), 30 I/O (191) (io), 31 I/O (194) (io), 32 I/O (197) (io), 34 I/O (200) (io), 35 I/O (203) (io), 36 I/O (206) (io), 37 I/O (209) (io), 40 I/O (212) (io), 41 I/O (215) (io), 42 I/O (218) (io), 43 I/O (221) (io), 44 I/O (224) (io), 45 I/O (227) (io), 46 I/O (230) (io), 47 I/O (233) (io), 48 I/O (236) (io), 49 I/O, GCK2 (239) (io), 50 M1 (242) (in), 52 M0 (245) (in), 54 PWRDWN (in), 55 I/O, GCK3 (246) (io), 56 I/O (HDC) (249) (io), 57 I/O (252) (io), 58 I/O (255) (io), 59 I/O (258) (io), 60 I/O (LDC) (261) (io), 61 I/O (264) (io), 62 I/O (267) (io), 63 I/O (270) (io), 64 I/O (273) (io), 67 I/O (276) (io), 68 I/O (279) (io), 69 I/O (282) (io), 70 I/O (285) (io), 72 I/O (288) (io), 73 I/O (291) (io), 74 I/O (294) (io), 75 I/O (297) (io), 76 I/O (300) (io), 77 I/O (INIT) (303) (io), 80 I/O (306) (io), 81 I/O (309) (io), 82 I/O (312) (io), 83 I/O (315) (io), 84 I/O (318) (io), 85 I/O (321) (io), 87 I/O (324) (io), 88 I/O (327) (io), 89 I/O (330) (io), 90 I/O (333) (io), 93 I/O (336) (io), 94 I/O (339) (io), 95 I/O (342) (io), 96 I/O (345) (io), 97 I/O (348) (io), 98 I/O (351) (io), 99 I/O (354) (io), 100 I/O (357) (io), 101 I/O (360) (io), 102 I/O, GCK4 (363) (io), 104 DONE (io), 106 PROGRAM (in), 107 I/O (D7) (366) (io), 108 I/O, GCK5 (369) (io), 109 I/O (372) (io), 110 I/O (375) (io), 112 I/O (D6) (378) (io), 113 I/O (381) (io), 114 I/O (384) (io), 115 I/O (387) (io), 116 I/O (390) (io), 117 I/O (393) (io), 119 I/O (396) (io), 120 I/O (399) (io), 122 I/O (D5) (402) (io), 123 I/O (405) (io), 124 I/O (408) (io), 125 I/O (411) (io), 126 I/O (414) (io), 127 I/O (417) (io), 128 I/O (D4) (420) (io), 129 I/O (423) (io), 132 I/O (D3) (426) (io), 133 I/O (429) (io), 134 I/O (432) (io), 135 I/O (435) (io), 136 I/O (438) (io), 137 I/O (441) (io), 138 I/O (D2) (444) (io), 139 I/O (447) (io), 141 I/O (450) (io), 142 I/O (453) (io), 145 I/O (456) (io), 146 I/O (459) (io), 147 I/O (462) (io), 148 I/O (465) (io), 149 I/O (D1) (468) (io), 150 I/O (471) (io), 151 I/O (474) (io), 152 I/O (477) (io), 153 I/O (D0, DIN) (480) (io), 154 I/O, GCK6 (DOUT) (483) (io), 155 CCLK (io), 157 O, TDO (0) (hiz), 159 I/O (2) (io), 160 I/O, GCK7 (5) (io), 161 I/O (8) (io), 162 I/O (11) (io), 163 I/O (CS1) (14) (io), 164 I/O (17) (io), 166 I/O (20) (io), 167 I/O (23) (io), 168 I/O (26) (io), 169 I/O (29) (io), 171 I/O (32) (io), 172 I/O (35) (io), 174 I/O (38) (io), 175 I/O (41) (io), 176 I/O (44) (io), 177 I/O (47) (io), 178 I/O (50) (io), 179 I/O (53) (io), 180 I/O (56) (io), 181 I/O (59) (io), 184 I/O (62) (io), 185 I/O (65) (io), 186 I/O (68) (io), 187 I/O (71) (io), 188 I/O (74) (io), 189 I/O (77) (io), 190 I/O (80) (io), 191 I/O (83) (io), 193 I/O (86) (io), 194 I/O (89) (io), 196 I/O (92) (io), 197 I/O (95) (io), 198 I/O (98) (io), 199 I/O (101) (io), 200 I/O (104) (io), 201 I/O (107) (io), 204 I/O (110) (io), 205 I/O (113) (io), 206 I/O (116) (io), 207 I/O, GCK8 (119) (io)
part B pins: 1 GND (power), 12 NC, 13 GND (power), 18 VCC (power), 25 GND (power), 26 VCC (power), 33 VCC (power), 38 GND (power), 39 NC, 51 GND (power), 53 VCC (power), 65 NC, 66 GND (power), 71 VCC (power), 78 VCC (power), 79 GND (power), 86 VCC (power), 91 GND (power), 92 NC, 103 GND (power), 105 VCC (power), 111 NC, 118 GND (power), 121 VCC (power), 130 VCC (power), 131 GND (power), 140 VCC (power), 143 GND (power), 144 NC, 156 VCC (power), 158 GND (power), 165 NC, 170 GND (power), 173 VCC (power), 182 GND (power), 183 VCC (power), 192 VCC (power), 195 GND (power), 202 NC, 203 NC, 208 VCC (power)

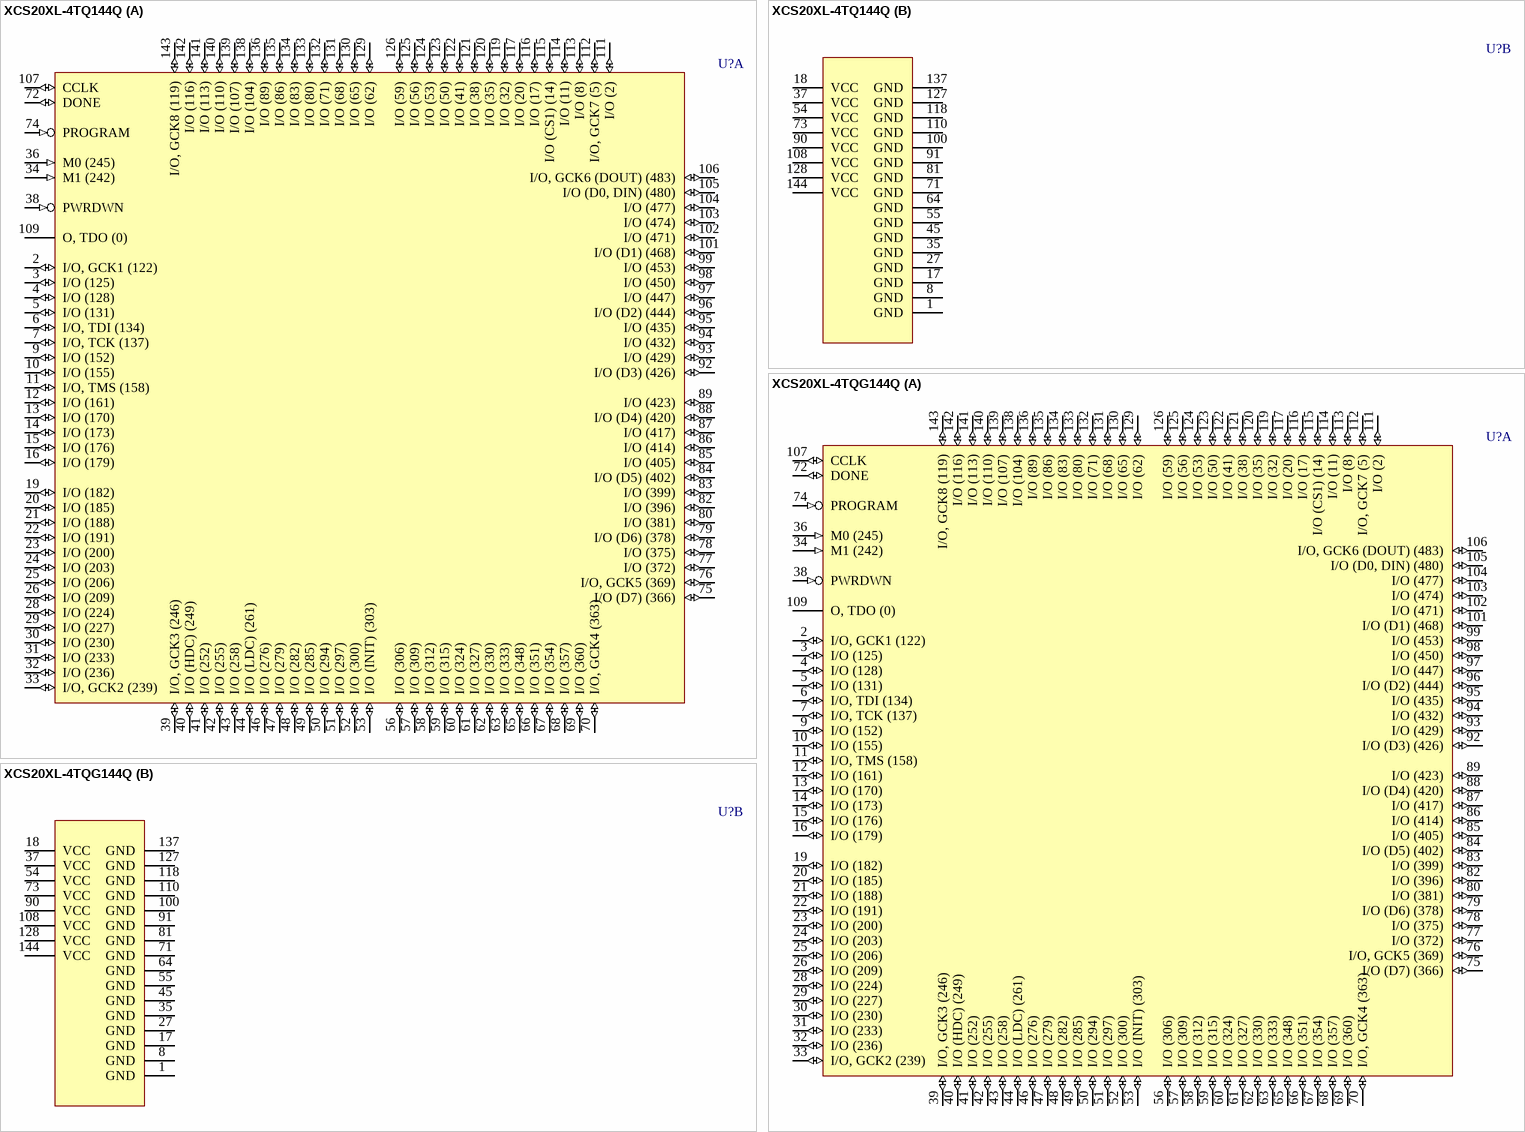
[diagram p29: symbols XCS20XL-4TQ144Q to XCS20XL-4TQG144Q]

## XCS20XL-4TQ144Q
designator U?
Automotive IQ Spartan XL FPGA, 113 User I/Os, 144-Pin TQFP, Speed Grade 4, Q Grade; DatasheetVersion: ver1.4, Oct-2004; PackageVersion: ver1.2, Jun-2004; PackageReference: TQ144; PackageDescription: 144-Pin Thin Quad Flat Pack (TQ144); Code_JEDEC: MS-026-BFB; ComponentLink1Description: Manufacturer URL; ComponentLink1URL: http://www.xilinx.com/; ComponentLink2Description: Spartan-XL Automotive IQ Datasheet; ComponentLink2URL: http://www.xilinx.com/support/documentation/data_sheets/ds107-1.pdf; ComponentLink3Description: Pinout; ComponentLink3URL: http://www.xilinx.com/support/documentation/data_sheets/ds060.pdf; ComponentLink4Description: TQ144 Package Drawing; ComponentLink4URL: http://www.xilinx.com/support/documentation/package_specs/tq144.pdf; ComponentLink5Description: Automotive IQ Documents; ComponentLink5URL: http://www.xilinx.com/support/documentation/automotive_iq_devices.htm
footprint TQ144_N (Thin QFP, 144-Leads, Body 20x20mm, Pitch 0.5mm, IPC Medium Density)
footprint TQ144_L (Thin QFP, 144-Leads, Body 20x20mm, Pitch 0.5mm, IPC High Density)
footprint TQ144_M (Thin QFP, 144-Leads, Body 20x20mm, Pitch 0.5mm, IPC Low Density)
part A pins: 2 I/O, GCK1 (122) (io), 3 I/O (125) (io), 4 I/O (128) (io), 5 I/O (131) (io), 6 I/O, TDI (134) (io), 7 I/O, TCK (137) (io), 9 I/O (152) (io), 10 I/O (155) (io), 11 I/O, TMS (158) (io), 12 I/O (161) (io), 13 I/O (170) (io), 14 I/O (173) (io), 15 I/O (176) (io), 16 I/O (179) (io), 19 I/O (182) (io), 20 I/O (185) (io), 21 I/O (188) (io), 22 I/O (191) (io), 23 I/O (200) (io), 24 I/O (203) (io), 25 I/O (206) (io), 26 I/O (209) (io), 28 I/O (224) (io), 29 I/O (227) (io), 30 I/O (230) (io), 31 I/O (233) (io), 32 I/O (236) (io), 33 I/O, GCK2 (239) (io), 34 M1 (242) (in), 36 M0 (245) (in), 38 PWRDWN (in), 39 I/O, GCK3 (246) (io), 40 I/O (HDC) (249) (io), 41 I/O (252) (io), 42 I/O (255) (io), 43 I/O (258) (io), 44 I/O (LDC) (261) (io), 46 I/O (276) (io), 47 I/O (279) (io), 48 I/O (282) (io), 49 I/O (285) (io), 50 I/O (294) (io), 51 I/O (297) (io), 52 I/O (300) (io), 53 I/O (INIT) (303) (io), 56 I/O (306) (io), 57 I/O (309) (io), 58 I/O (312) (io), 59 I/O (315) (io), 60 I/O (324) (io), 61 I/O (327) (io), 62 I/O (330) (io), 63 I/O (333) (io), 65 I/O (348) (io), 66 I/O (351) (io), 67 I/O (354) (io), 68 I/O (357) (io), 69 I/O (360) (io), 70 I/O, GCK4 (363) (io), 72 DONE (io), 74 PROGRAM (in), 75 I/O (D7) (366) (io), 76 I/O, GCK5 (369) (io), 77 I/O (372) (io), 78 I/O (375) (io), 79 I/O (D6) (378) (io), 80 I/O (381) (io), 82 I/O (396) (io), 83 I/O (399) (io), 84 I/O (D5) (402) (io), 85 I/O (405) (io), 86 I/O (414) (io), 87 I/O (417) (io), 88 I/O (D4) (420) (io), 89 I/O (423) (io), 92 I/O (D3) (426) (io), 93 I/O (429) (io), 94 I/O (432) (io), 95 I/O (435) (io), 96 I/O (D2) (444) (io), 97 I/O (447) (io), 98 I/O (450) (io), 99 I/O (453) (io), 101 I/O (D1) (468) (io), 102 I/O (471) (io), 103 I/O (474) (io), 104 I/O (477) (io), 105 I/O (D0, DIN) (480) (io), 106 I/O, GCK6 (DOUT) (483) (io), 107 CCLK (io), 109 O, TDO (0) (hiz), 111 I/O (2) (io), 112 I/O, GCK7 (5) (io), 113 I/O (8) (io), 114 I/O (11) (io), 115 I/O (CS1) (14) (io), 116 I/O (17) (io), 117 I/O (20) (io), 119 I/O (32) (io), 120 I/O (35) (io), 121 I/O (38) (io), 122 I/O (41) (io), 123 I/O (50) (io), 124 I/O (53) (io), 125 I/O (56) (io), 126 I/O (59) (io), 129 I/O (62) (io), 130 I/O (65) (io), 131 I/O (68) (io), 132 I/O (71) (io), 133 I/O (80) (io), 134 I/O (83) (io), 135 I/O (86) (io), 136 I/O (89) (io), 138 I/O (104) (io), 139 I/O (107) (io), 140 I/O (110) (io), 141 I/O (113) (io), 142 I/O (116) (io), 143 I/O, GCK8 (119) (io)
part B pins: 1 GND (power), 8 GND (power), 17 GND (power), 18 VCC (power), 27 GND (power), 35 GND (power), 37 VCC (power), 45 GND (power), 54 VCC (power), 55 GND (power), 64 GND (power), 71 GND (power), 73 VCC (power), 81 GND (power), 90 VCC (power), 91 GND (power), 100 GND (power), 108 VCC (power), 110 GND (power), 118 GND (power), 127 GND (power), 128 VCC (power), 137 GND (power), 144 VCC (power)

## XCS20XL-4TQG144Q
designator U?
Automotive IQ Spartan XL FPGA, 113 User I/Os, 144-Pin TQFP, Speed Grade 4, Q Grade, Pb-Free; DatasheetVersion: ver1.4, Oct-2004; PackageVersion: ver1.2, Jun-2004; PackageReference: TQG144; PackageDescription: 144-Pin Thin Quad Flat Pack (TQG144) - Pb-Free; Code_JEDEC: MS-026-BFB; ComponentLink1Description: Manufacturer URL; ComponentLink1URL: http://www.xilinx.com/; ComponentLink2Description: Spartan-XL Automotive IQ Datasheet; ComponentLink2URL: http://www.xilinx.com/support/documentation/data_sheets/ds107-1.pdf; ComponentLink3Description: Pinout; ComponentLink3URL: http://www.xilinx.com/support/documentation/data_sheets/ds060.pdf; ComponentLink4Description: TQG144 Package Drawing; ComponentLink4URL: http://www.xilinx.com/support/documentation/package_specs/tq144.pdf; ComponentLink5Description: Automotive IQ Documents; ComponentLink5URL: http://www.xilinx.com/support/documentation/automotive_iq_devices.htm
footprint TQG144_N (Thin QFP, 144-Leads, Body 20x20mm, Pitch 0.5mm, IPC Medium Density)
footprint TQG144_L (Thin QFP, 144-Leads, Body 20x20mm, Pitch 0.5mm, IPC High Density)
footprint TQG144_M (Thin QFP, 144-Leads, Body 20x20mm, Pitch 0.5mm, IPC Low Density)
part A pins: 2 I/O, GCK1 (122) (io), 3 I/O (125) (io), 4 I/O (128) (io), 5 I/O (131) (io), 6 I/O, TDI (134) (io), 7 I/O, TCK (137) (io), 9 I/O (152) (io), 10 I/O (155) (io), 11 I/O, TMS (158) (io), 12 I/O (161) (io), 13 I/O (170) (io), 14 I/O (173) (io), 15 I/O (176) (io), 16 I/O (179) (io), 19 I/O (182) (io), 20 I/O (185) (io), 21 I/O (188) (io), 22 I/O (191) (io), 23 I/O (200) (io), 24 I/O (203) (io), 25 I/O (206) (io), 26 I/O (209) (io), 28 I/O (224) (io), 29 I/O (227) (io), 30 I/O (230) (io), 31 I/O (233) (io), 32 I/O (236) (io), 33 I/O, GCK2 (239) (io), 34 M1 (242) (in), 36 M0 (245) (in), 38 PWRDWN (in), 39 I/O, GCK3 (246) (io), 40 I/O (HDC) (249) (io), 41 I/O (252) (io), 42 I/O (255) (io), 43 I/O (258) (io), 44 I/O (LDC) (261) (io), 46 I/O (276) (io), 47 I/O (279) (io), 48 I/O (282) (io), 49 I/O (285) (io), 50 I/O (294) (io), 51 I/O (297) (io), 52 I/O (300) (io), 53 I/O (INIT) (303) (io), 56 I/O (306) (io), 57 I/O (309) (io), 58 I/O (312) (io), 59 I/O (315) (io), 60 I/O (324) (io), 61 I/O (327) (io), 62 I/O (330) (io), 63 I/O (333) (io), 65 I/O (348) (io), 66 I/O (351) (io), 67 I/O (354) (io), 68 I/O (357) (io), 69 I/O (360) (io), 70 I/O, GCK4 (363) (io), 72 DONE (io), 74 PROGRAM (in), 75 I/O (D7) (366) (io), 76 I/O, GCK5 (369) (io), 77 I/O (372) (io), 78 I/O (375) (io), 79 I/O (D6) (378) (io), 80 I/O (381) (io), 82 I/O (396) (io), 83 I/O (399) (io), 84 I/O (D5) (402) (io), 85 I/O (405) (io), 86 I/O (414) (io), 87 I/O (417) (io), 88 I/O (D4) (420) (io), 89 I/O (423) (io), 92 I/O (D3) (426) (io), 93 I/O (429) (io), 94 I/O (432) (io), 95 I/O (435) (io), 96 I/O (D2) (444) (io), 97 I/O (447) (io), 98 I/O (450) (io), 99 I/O (453) (io), 101 I/O (D1) (468) (io), 102 I/O (471) (io), 103 I/O (474) (io), 104 I/O (477) (io), 105 I/O (D0, DIN) (480) (io), 106 I/O, GCK6 (DOUT) (483) (io), 107 CCLK (io), 109 O, TDO (0) (hiz), 111 I/O (2) (io), 112 I/O, GCK7 (5) (io), 113 I/O (8) (io), 114 I/O (11) (io), 115 I/O (CS1) (14) (io), 116 I/O (17) (io), 117 I/O (20) (io), 119 I/O (32) (io), 120 I/O (35) (io), 121 I/O (38) (io), 122 I/O (41) (io), 123 I/O (50) (io), 124 I/O (53) (io), 125 I/O (56) (io), 126 I/O (59) (io), 129 I/O (62) (io), 130 I/O (65) (io), 131 I/O (68) (io), 132 I/O (71) (io), 133 I/O (80) (io), 134 I/O (83) (io), 135 I/O (86) (io), 136 I/O (89) (io), 138 I/O (104) (io), 139 I/O (107) (io), 140 I/O (110) (io), 141 I/O (113) (io), 142 I/O (116) (io), 143 I/O, GCK8 (119) (io)
part B pins: 1 GND (power), 8 GND (power), 17 GND (power), 18 VCC (power), 27 GND (power), 35 GND (power), 37 VCC (power), 45 GND (power), 54 VCC (power), 55 GND (power), 64 GND (power), 71 GND (power), 73 VCC (power), 81 GND (power), 90 VCC (power), 91 GND (power), 100 GND (power), 108 VCC (power), 110 GND (power), 118 GND (power), 127 GND (power), 128 VCC (power), 137 GND (power), 144 VCC (power)

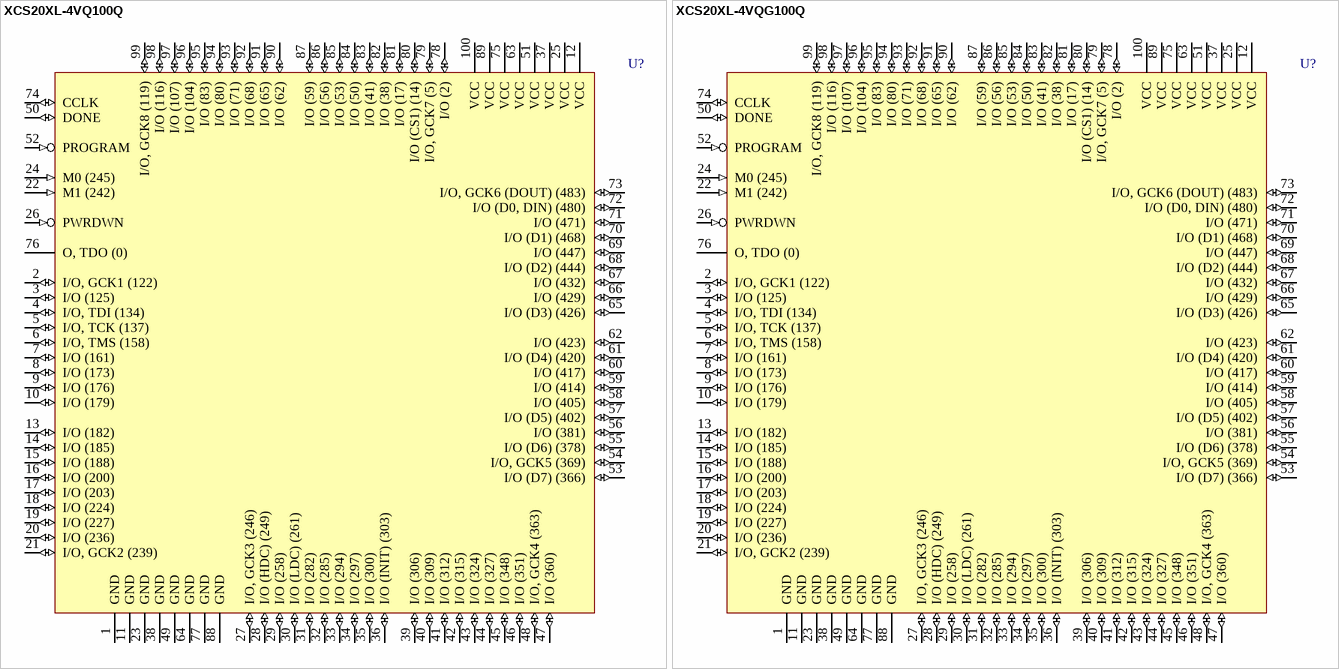
[diagram p30: symbols XCS20XL-4VQ100Q to XCS20XL-4VQG100Q]

## XCS20XL-4VQ100Q
designator U?
Automotive IQ Spartan XL FPGA, 77 User I/Os, 100-Pin VQFP, Speed Grade 4, Q Grade; DatasheetVersion: ver1.4, Oct-2004; PackageVersion: ver1.2.1, Feb-2007; PackageReference: VQ100; PackageDescription: 100-Pin Very Thin Quad Flat Pack (VQ100); Code_JEDEC: MS-026-AED; ComponentLink1Description: Manufacturer URL; ComponentLink1URL: http://www.xilinx.com/; ComponentLink2Description: Spartan-XL Automotive IQ Datasheet; ComponentLink2URL: http://www.xilinx.com/support/documentation/data_sheets/ds107-1.pdf; ComponentLink3Description: Pinout; ComponentLink3URL: http://www.xilinx.com/support/documentation/data_sheets/ds060.pdf; ComponentLink4Description: VQ100 Package Drawing; ComponentLink4URL: http://www.xilinx.com/support/documentation/package_specs/vq100.pdf; ComponentLink5Description: Automotive IQ Documents; ComponentLink5URL: http://www.xilinx.com/support/documentation/automotive_iq_devices.htm
footprint VQ100_N (Thin QFP, 100-Leads, Body 14x14mm, Pitch 0.5mm, IPC Medium Density)
footprint VQ100_L (Thin QFP, 100-Leads, Body 14x14mm, Pitch 0.5mm, IPC High Density)
footprint VQ100_M (Thin QFP, 100-Leads, Body 14x14mm, Pitch 0.5mm, IPC Low Density)
pins: 1 GND (power), 2 I/O, GCK1 (122) (io), 3 I/O (125) (io), 4 I/O, TDI (134) (io), 5 I/O, TCK (137) (io), 6 I/O, TMS (158) (io), 7 I/O (161) (io), 8 I/O (173) (io), 9 I/O (176) (io), 10 I/O (179) (io), 11 GND (power), 12 VCC (power), 13 I/O (182) (io), 14 I/O (185) (io), 15 I/O (188) (io), 16 I/O (200) (io), 17 I/O (203) (io), 18 I/O (224) (io), 19 I/O (227) (io), 20 I/O (236) (io), 21 I/O, GCK2 (239) (io), 22 M1 (242) (in), 23 GND (power), 24 M0 (245) (in), 25 VCC (power), 26 PWRDWN (in), 27 I/O, GCK3 (246) (io), 28 I/O (HDC) (249) (io), 29 I/O (258) (io), 30 I/O (LDC) (261) (io), 31 I/O (282) (io), 32 I/O (285) (io), 33 I/O (294) (io), 34 I/O (297) (io), 35 I/O (300) (io), 36 I/O (INIT) (303) (io), 37 VCC (power), 38 GND (power), 39 I/O (306) (io), 40 I/O (309) (io), 41 I/O (312) (io), 42 I/O (315) (io), 43 I/O (324) (io), 44 I/O (327) (io), 45 I/O (348) (io), 46 I/O (351) (io), 47 I/O (360) (io), 48 I/O, GCK4 (363) (io), 49 GND (power), 50 DONE (io), 51 VCC (power), 52 PROGRAM (in), 53 I/O (D7) (366) (io), 54 I/O, GCK5 (369) (io), 55 I/O (D6) (378) (io), 56 I/O (381) (io), 57 I/O (D5) (402) (io), 58 I/O (405) (io), 59 I/O (414) (io), 60 I/O (417) (io), 61 I/O (D4) (420) (io), 62 I/O (423) (io), 63 VCC (power), 64 GND (power), 65 I/O (D3) (426) (io), 66 I/O (429) (io), 67 I/O (432) (io), 68 I/O (D2) (444) (io), 69 I/O (447) (io), 70 I/O (D1) (468) (io), 71 I/O (471) (io), 72 I/O (D0, DIN) (480) (io), 73 I/O, GCK6 (DOUT) (483) (io), 74 CCLK (io), 75 VCC (power), 76 O, TDO (0) (hiz), 77 GND (power), 78 I/O (2) (io), 79 I/O, GCK7 (5) (io), 80 I/O (CS1) (14) (io), 81 I/O (17) (io), 82 I/O (38) (io), 83 I/O (41) (io), 84 I/O (50) (io), 85 I/O (53) (io), 86 I/O (56) (io), 87 I/O (59) (io), 88 GND (power), 89 VCC (power), 90 I/O (62) (io), 91 I/O (65) (io), 92 I/O (68) (io), 93 I/O (71) (io), 94 I/O (80) (io), 95 I/O (83) (io), 96 I/O (104) (io), 97 I/O (107) (io), 98 I/O (116) (io), 99 I/O, GCK8 (119) (io), 100 VCC (power)

## XCS20XL-4VQG100Q
designator U?
Automotive IQ Spartan XL FPGA, 77 User I/Os, 100-Pin VQFP, Speed Grade 4, Q Grade, Pb-Free; DatasheetVersion: ver1.4, Oct-2004; PackageVersion: ver1.2.1, Feb-2007; PackageReference: VQG100; PackageDescription: 100-Pin Very Thin Quad Flat Pack (VQG100) - Pb-Free; Code_JEDEC: MS-026-AED; ComponentLink1Description: Manufacturer URL; ComponentLink1URL: http://www.xilinx.com/; ComponentLink2Description: Spartan-XL Automotive IQ Datasheet; ComponentLink2URL: http://www.xilinx.com/support/documentation/data_sheets/ds107-1.pdf; ComponentLink3Description: Pinout; ComponentLink3URL: http://www.xilinx.com/support/documentation/data_sheets/ds060.pdf; ComponentLink4Description: VQG100 Package Drawing; ComponentLink4URL: http://www.xilinx.com/support/documentation/package_specs/vq100.pdf; ComponentLink5Description: Automotive IQ Documents; ComponentLink5URL: http://www.xilinx.com/support/documentation/automotive_iq_devices.htm
footprint VQG100_N (Thin QFP, 100-Leads, Body 14x14mm, Pitch 0.5mm, IPC Medium Density)
footprint VQG100_L (Thin QFP, 100-Leads, Body 14x14mm, Pitch 0.5mm, IPC High Density)
footprint VQG100_M (Thin QFP, 100-Leads, Body 14x14mm, Pitch 0.5mm, IPC Low Density)
pins: 1 GND (power), 2 I/O, GCK1 (122) (io), 3 I/O (125) (io), 4 I/O, TDI (134) (io), 5 I/O, TCK (137) (io), 6 I/O, TMS (158) (io), 7 I/O (161) (io), 8 I/O (173) (io), 9 I/O (176) (io), 10 I/O (179) (io), 11 GND (power), 12 VCC (power), 13 I/O (182) (io), 14 I/O (185) (io), 15 I/O (188) (io), 16 I/O (200) (io), 17 I/O (203) (io), 18 I/O (224) (io), 19 I/O (227) (io), 20 I/O (236) (io), 21 I/O, GCK2 (239) (io), 22 M1 (242) (in), 23 GND (power), 24 M0 (245) (in), 25 VCC (power), 26 PWRDWN (in), 27 I/O, GCK3 (246) (io), 28 I/O (HDC) (249) (io), 29 I/O (258) (io), 30 I/O (LDC) (261) (io), 31 I/O (282) (io), 32 I/O (285) (io), 33 I/O (294) (io), 34 I/O (297) (io), 35 I/O (300) (io), 36 I/O (INIT) (303) (io), 37 VCC (power), 38 GND (power), 39 I/O (306) (io), 40 I/O (309) (io), 41 I/O (312) (io), 42 I/O (315) (io), 43 I/O (324) (io), 44 I/O (327) (io), 45 I/O (348) (io), 46 I/O (351) (io), 47 I/O (360) (io), 48 I/O, GCK4 (363) (io), 49 GND (power), 50 DONE (io), 51 VCC (power), 52 PROGRAM (in), 53 I/O (D7) (366) (io), 54 I/O, GCK5 (369) (io), 55 I/O (D6) (378) (io), 56 I/O (381) (io), 57 I/O (D5) (402) (io), 58 I/O (405) (io), 59 I/O (414) (io), 60 I/O (417) (io), 61 I/O (D4) (420) (io), 62 I/O (423) (io), 63 VCC (power), 64 GND (power), 65 I/O (D3) (426) (io), 66 I/O (429) (io), 67 I/O (432) (io), 68 I/O (D2) (444) (io), 69 I/O (447) (io), 70 I/O (D1) (468) (io), 71 I/O (471) (io), 72 I/O (D0, DIN) (480) (io), 73 I/O, GCK6 (DOUT) (483) (io), 74 CCLK (io), 75 VCC (power), 76 O, TDO (0) (hiz), 77 GND (power), 78 I/O (2) (io), 79 I/O, GCK7 (5) (io), 80 I/O (CS1) (14) (io), 81 I/O (17) (io), 82 I/O (38) (io), 83 I/O (41) (io), 84 I/O (50) (io), 85 I/O (53) (io), 86 I/O (56) (io), 87 I/O (59) (io), 88 GND (power), 89 VCC (power), 90 I/O (62) (io), 91 I/O (65) (io), 92 I/O (68) (io), 93 I/O (71) (io), 94 I/O (80) (io), 95 I/O (83) (io), 96 I/O (104) (io), 97 I/O (107) (io), 98 I/O (116) (io), 99 I/O, GCK8 (119) (io), 100 VCC (power)

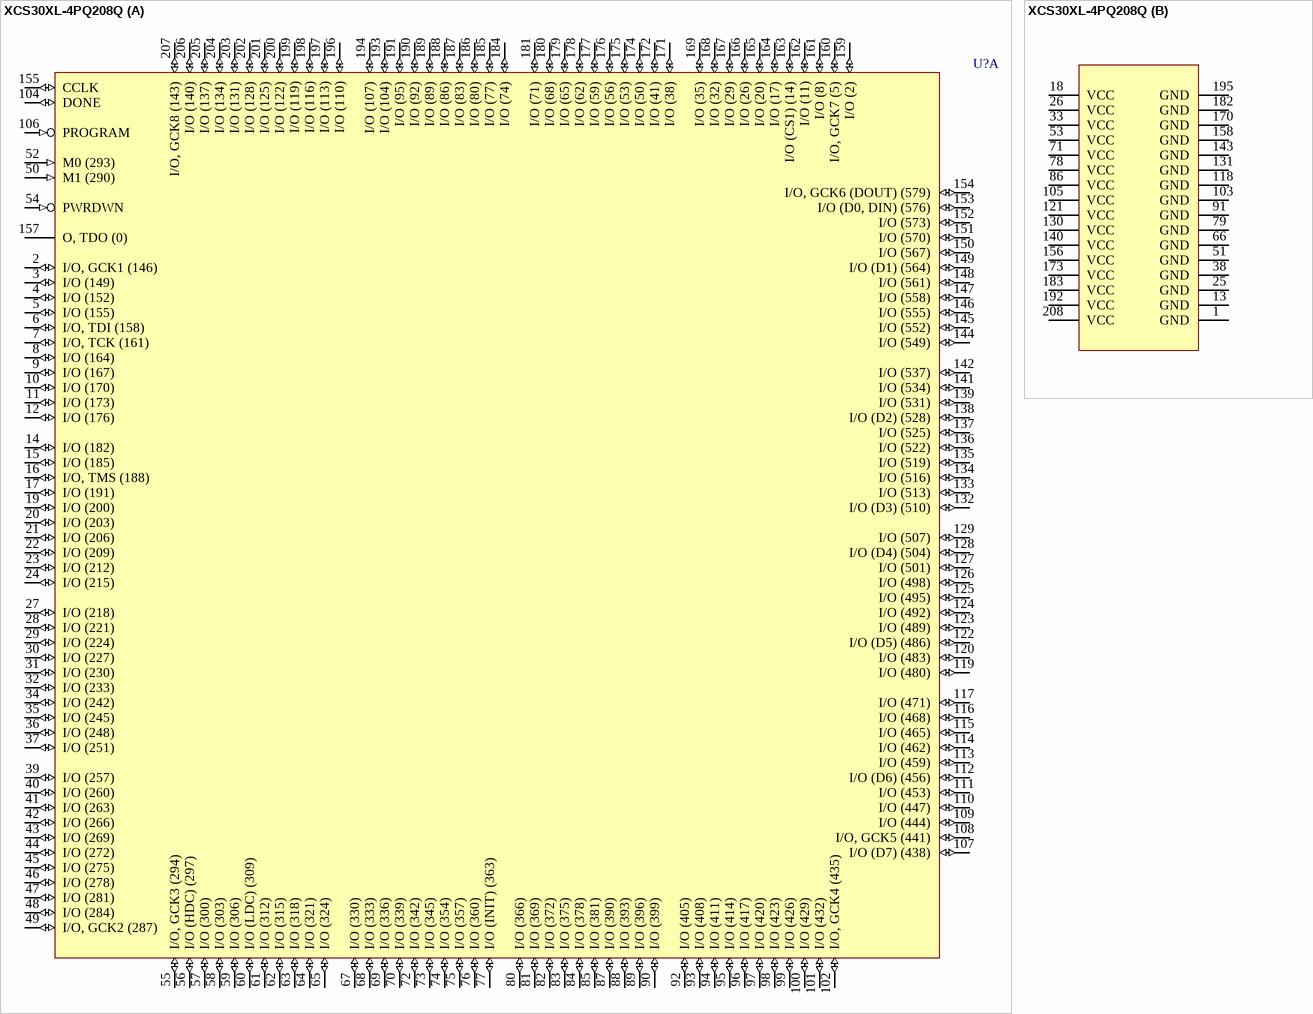
[diagram p31: symbol XCS30XL-4PQ208Q]

## XCS30XL-4PQ208Q
designator U?
Automotive IQ Spartan XL FPGA, 169 User I/Os, 208-Pin PQFP, Speed Grade 4, Q Grade; DatasheetVersion: ver1.4, Oct-2004; PackageVersion: ver1.2, Jun-2004; PackageReference: PQ208; PackageDescription: 208-Pin Plastic Quad Flat Pack (PQ208); Code_JEDEC: MS-029-FA-1; ComponentLink1Description: Manufacturer URL; ComponentLink1URL: http://www.xilinx.com/; ComponentLink2Description: Spartan-XL Automotive IQ Datasheet; ComponentLink2URL: http://www.xilinx.com/support/documentation/data_sheets/ds107-1.pdf; ComponentLink3Description: Pinout; ComponentLink3URL: http://www.xilinx.com/support/documentation/data_sheets/ds060.pdf; ComponentLink4Description: PQ208 Package Drawing; ComponentLink4URL: http://www.xilinx.com/support/documentation/package_specs/pq208.pdf; ComponentLink5Description: Automotive IQ Documents; ComponentLink5URL: http://www.xilinx.com/support/documentation/automotive_iq_devices.htm
footprint PQ208_N (Shrink QFP, 208-Leads, Body 28x28mm, Pitch 0.5mm, IPC Medium Density)
footprint PQ208_L (Shrink QFP, 208-Leads, Body 28x28mm, Pitch 0.5mm, IPC High Density)
footprint PQ208_M (Shrink QFP, 208-Leads, Body 28x28mm, Pitch 0.5mm, IPC Low Density)
part A pins: 2 I/O, GCK1 (146) (io), 3 I/O (149) (io), 4 I/O (152) (io), 5 I/O (155) (io), 6 I/O, TDI (158) (io), 7 I/O, TCK (161) (io), 8 I/O (164) (io), 9 I/O (167) (io), 10 I/O (170) (io), 11 I/O (173) (io), 12 I/O (176) (io), 14 I/O (182) (io), 15 I/O (185) (io), 16 I/O, TMS (188) (io), 17 I/O (191) (io), 19 I/O (200) (io), 20 I/O (203) (io), 21 I/O (206) (io), 22 I/O (209) (io), 23 I/O (212) (io), 24 I/O (215) (io), 27 I/O (218) (io), 28 I/O (221) (io), 29 I/O (224) (io), 30 I/O (227) (io), 31 I/O (230) (io), 32 I/O (233) (io), 34 I/O (242) (io), 35 I/O (245) (io), 36 I/O (248) (io), 37 I/O (251) (io), 39 I/O (257) (io), 40 I/O (260) (io), 41 I/O (263) (io), 42 I/O (266) (io), 43 I/O (269) (io), 44 I/O (272) (io), 45 I/O (275) (io), 46 I/O (278) (io), 47 I/O (281) (io), 48 I/O (284) (io), 49 I/O, GCK2 (287) (io), 50 M1 (290) (in), 52 M0 (293) (in), 54 PWRDWN (in), 55 I/O, GCK3 (294) (io), 56 I/O (HDC) (297) (io), 57 I/O (300) (io), 58 I/O (303) (io), 59 I/O (306) (io), 60 I/O (LDC) (309) (io), 61 I/O (312) (io), 62 I/O (315) (io), 63 I/O (318) (io), 64 I/O (321) (io), 65 I/O (324) (io), 67 I/O (330) (io), 68 I/O (333) (io), 69 I/O (336) (io), 70 I/O (339) (io), 72 I/O (342) (io), 73 I/O (345) (io), 74 I/O (354) (io), 75 I/O (357) (io), 76 I/O (360) (io), 77 I/O (INIT) (363) (io), 80 I/O (366) (io), 81 I/O (369) (io), 82 I/O (372) (io), 83 I/O (375) (io), 84 I/O (378) (io), 85 I/O (381) (io), 87 I/O (390) (io), 88 I/O (393) (io), 89 I/O (396) (io), 90 I/O (399) (io), 92 I/O (405) (io), 93 I/O (408) (io), 94 I/O (411) (io), 95 I/O (414) (io), 96 I/O (417) (io), 97 I/O (420) (io), 98 I/O (423) (io), 99 I/O (426) (io), 100 I/O (429) (io), 101 I/O (432) (io), 102 I/O, GCK4 (435) (io), 104 DONE (io), 106 PROGRAM (in), 107 I/O (D7) (438) (io), 108 I/O, GCK5 (441) (io), 109 I/O (444) (io), 110 I/O (447) (io), 111 I/O (453) (io), 112 I/O (D6) (456) (io), 113 I/O (459) (io), 114 I/O (462) (io), 115 I/O (465) (io), 116 I/O (468) (io), 117 I/O (471) (io), 119 I/O (480) (io), 120 I/O (483) (io), 122 I/O (D5) (486) (io), 123 I/O (489) (io), 124 I/O (492) (io), 125 I/O (495) (io), 126 I/O (498) (io), 127 I/O (501) (io), 128 I/O (D4) (504) (io), 129 I/O (507) (io), 132 I/O (D3) (510) (io), 133 I/O (513) (io), 134 I/O (516) (io), 135 I/O (519) (io), 136 I/O (522) (io), 137 I/O (525) (io), 138 I/O (D2) (528) (io), 139 I/O (531) (io), 141 I/O (534) (io), 142 I/O (537) (io), 144 I/O (549) (io), 145 I/O (552) (io), 146 I/O (555) (io), 147 I/O (558) (io), 148 I/O (561) (io), 149 I/O (D1) (564) (io), 150 I/O (567) (io), 151 I/O (570) (io), 152 I/O (573) (io), 153 I/O (D0, DIN) (576) (io), 154 I/O, GCK6 (DOUT) (579) (io), 155 CCLK (io), 157 O, TDO (0) (hiz), 159 I/O (2) (io), 160 I/O, GCK7 (5) (io), 161 I/O (8) (io), 162 I/O (11) (io), 163 I/O (CS1) (14) (io), 164 I/O (17) (io), 165 I/O (20) (io), 166 I/O (26) (io), 167 I/O (29) (io), 168 I/O (32) (io), 169 I/O (35) (io), 171 I/O (38) (io), 172 I/O (41) (io), 174 I/O (50) (io), 175 I/O (53) (io), 176 I/O (56) (io), 177 I/O (59) (io), 178 I/O (62) (io), 179 I/O (65) (io), 180 I/O (68) (io), 181 I/O (71) (io), 184 I/O (74) (io), 185 I/O (77) (io), 186 I/O (80) (io), 187 I/O (83) (io), 188 I/O (86) (io), 189 I/O (89) (io), 190 I/O (92) (io), 191 I/O (95) (io), 193 I/O (104) (io), 194 I/O (107) (io), 196 I/O (110) (io), 197 I/O (113) (io), 198 I/O (116) (io), 199 I/O (119) (io), 200 I/O (122) (io), 201 I/O (125) (io), 202 I/O (128) (io), 203 I/O (131) (io), 204 I/O (134) (io), 205 I/O (137) (io), 206 I/O (140) (io), 207 I/O, GCK8 (143) (io)
part B pins: 1 GND (power), 13 GND (power), 18 VCC (power), 25 GND (power), 26 VCC (power), 33 VCC (power), 38 GND (power), 51 GND (power), 53 VCC (power), 66 GND (power), 71 VCC (power), 78 VCC (power), 79 GND (power), 86 VCC (power), 91 GND (power), 103 GND (power), 105 VCC (power), 118 GND (power), 121 VCC (power), 130 VCC (power), 131 GND (power), 140 VCC (power), 143 GND (power), 156 VCC (power), 158 GND (power), 170 GND (power), 173 VCC (power), 182 GND (power), 183 VCC (power), 192 VCC (power), 195 GND (power), 208 VCC (power)

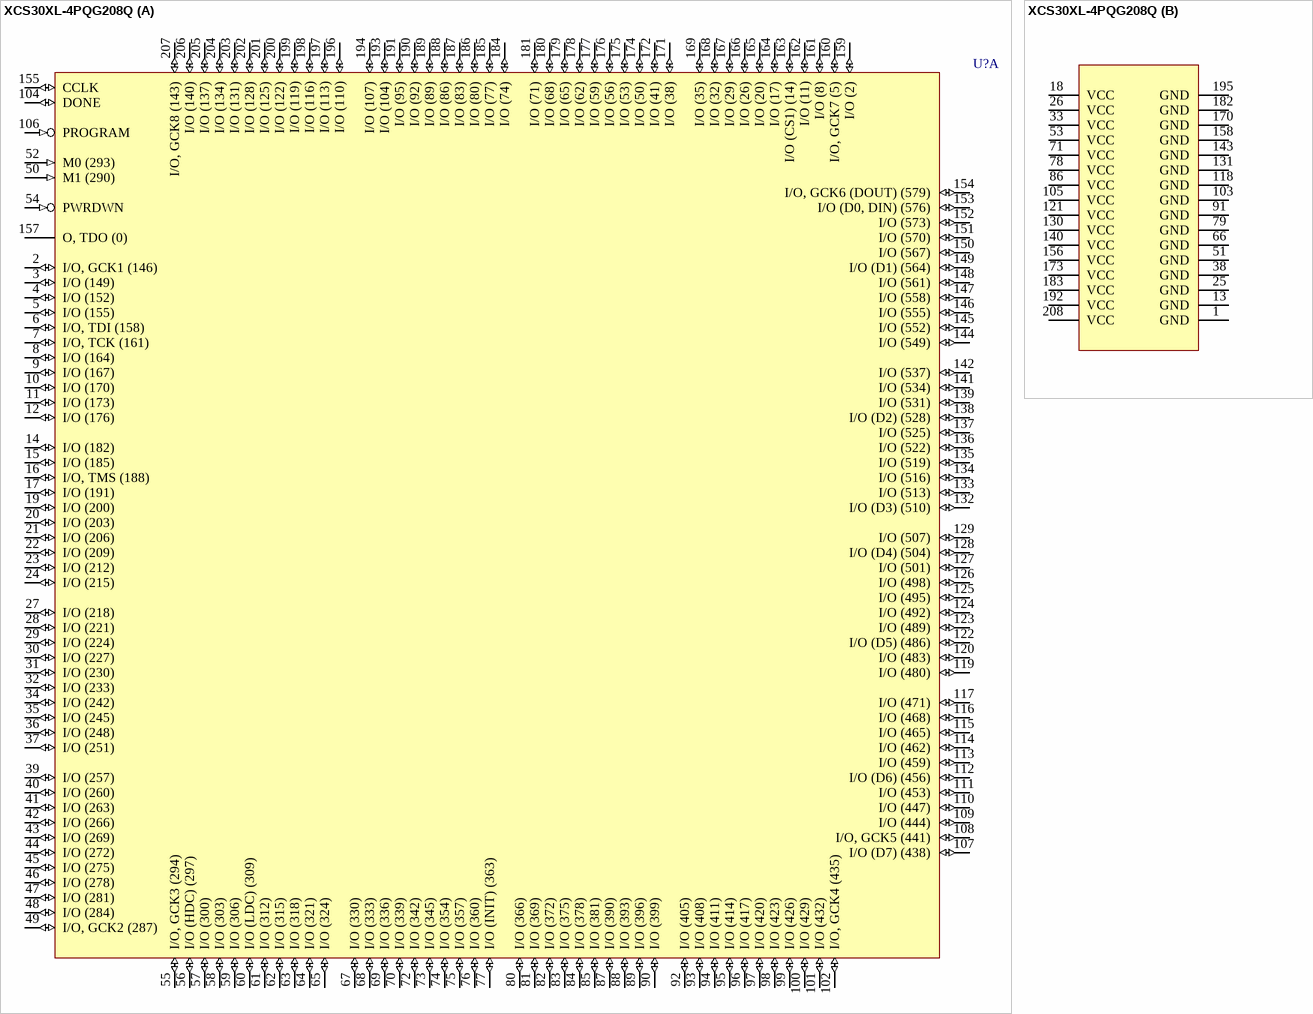
[diagram p32: symbol XCS30XL-4PQG208Q]